# Altium integrated library NXP_60_26022015.IntLib: 1306 symbols (part 13 of 28)
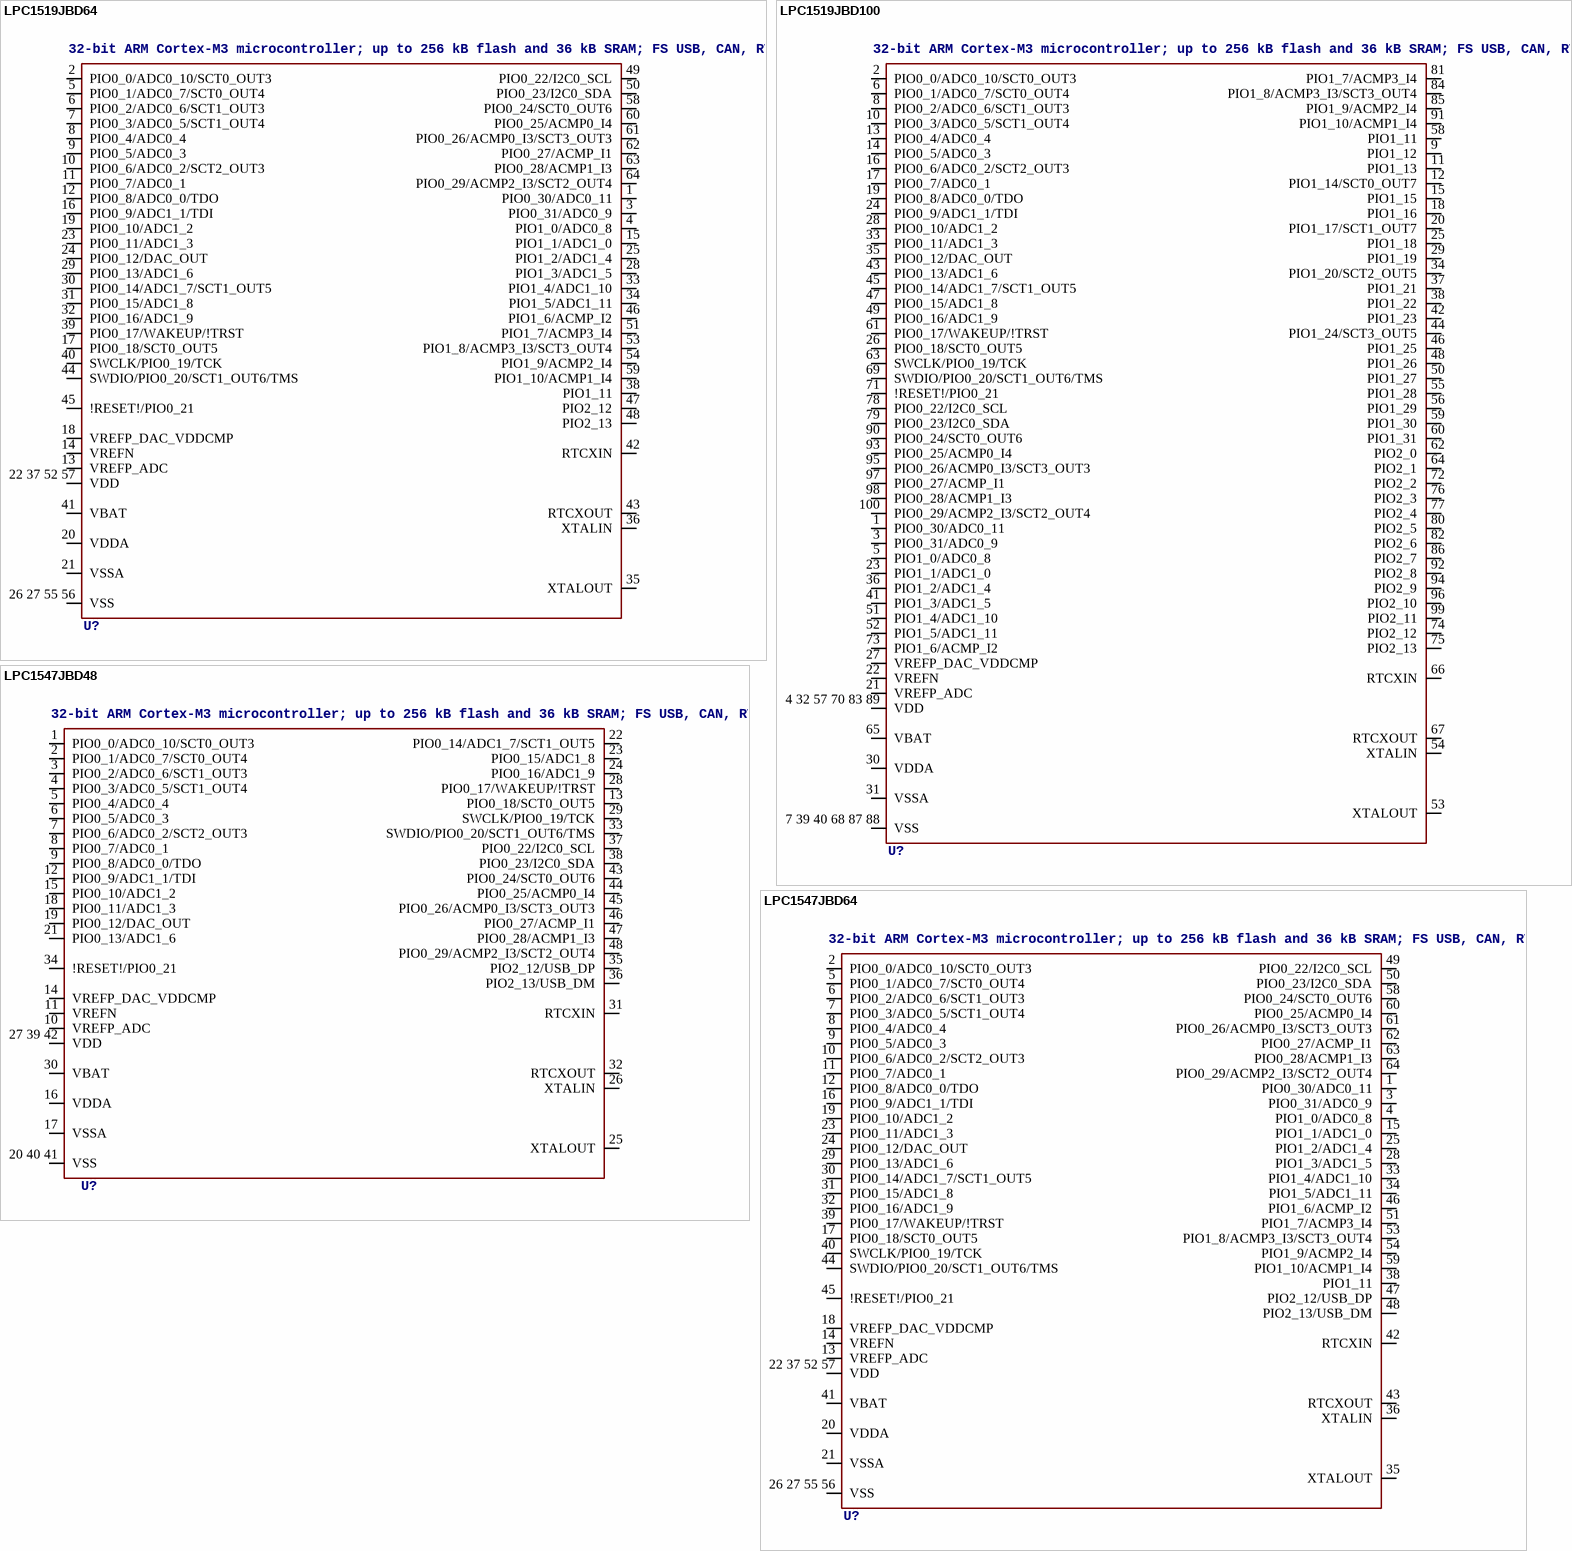
[diagram p197: symbols LPC1519JBD64 to LPC1547JBD64]

## LPC1519JBD100
designator U?, comment 32-bit ARM Cortex-M3 microcontroller; up to 256 kB flash and 36 kB SRAM; FS USB, CAN, RTC, SPI, USART, I2C The LPC15xx are ARM Cortex-M3 based microcontrollers for embedded applications featuring a rich peripheral set with very low power consumption. The ARM Cortex-M3 is a next generation core that offers system enhancements such as enhanced debug features and a higher level of support block integration. The LPC15xx operate at CPU frequencies of up to 72 MHz. The ARM Cortex-M3 CPU incorporates a 3-stage pipeline and uses a Harvard architecture with separate local instruction and data buses as well as a third bus for peripherals. The ARM Cortex-M3 CPU also includes an internal prefetch unit that supports speculative branching. The LPC15xx includes up to 256 kB of flash memory, 32 kB of ROM, a 4 kB EEPROM, and up to 36 kB of SRAM. The peripheral compliment includes one full-speed USB 2.0 device, two SPI interfaces, three USARTs, one Fast-mode Plus I2C-bus interface, one C_CAN module, PWM/timer subsystem with four configurable, multi-purpose State Configurable Timers (SCTimer/PWM) with input pre-processing unit, a Real-time clock module with independent power supply and a dedicated oscillator, two 12-channel/12-bit, 2 Msamples/s ADCs, one 12-bit, 500 kSamples/s DAC, four voltage comparators with internal voltage reference, and a temperature sensor. A DMA engine can service most peripherals.    AAL Eindhoven MK
CHANNELS: 12/12; FLASH: 256k; GPIO: 76; SRAM: 36k; USB: No
footprint SOT407-1
pins: 1 PIO0_30/ADC0_11, 2 PIO0_0/ADC0_10/SCT0_OUT3, 3 PIO0_31/ADC0_9, 4 32 57 70 83 89 VDD (power), 5 PIO1_0/ADC0_8, 6 PIO0_1/ADC0_7/SCT0_OUT4, 7 39 40 68 87 88 VSS (power), 8 PIO0_2/ADC0_6/SCT1_OUT3, 9 PIO1_12, 10 PIO0_3/ADC0_5/SCT1_OUT4, 11 PIO1_13, 12 PIO1_14/SCT0_OUT7, 13 PIO0_4/ADC0_4, 14 PIO0_5/ADC0_3, 15 PIO1_15, 16 PIO0_6/ADC0_2/SCT2_OUT3, 17 PIO0_7/ADC0_1, 18 PIO1_16, 19 PIO0_8/ADC0_0/TDO, 20 PIO1_17/SCT1_OUT7, 21 VREFP_ADC (power), 22 VREFN (power), 23 PIO1_1/ADC1_0, 24 PIO0_9/ADC1_1/TDI, 25 PIO1_18, 26 PIO0_18/SCT0_OUT5, 27 VREFP_DAC_VDDCMP (power), 28 PIO0_10/ADC1_2, 29 PIO1_19, 30 VDDA (power), 31 VSSA (power), 33 PIO0_11/ADC1_3, 34 PIO1_20/SCT2_OUT5, 35 PIO0_12/DAC_OUT, 36 PIO1_2/ADC1_4, 37 PIO1_21, 38 PIO1_22, 41 PIO1_3/ADC1_5, 42 PIO1_23, 43 PIO0_13/ADC1_6, 44 PIO1_24/SCT3_OUT5, 45 PIO0_14/ADC1_7/SCT1_OUT5, 46 PIO1_25, 47 PIO0_15/ADC1_8, 48 PIO1_26, 49 PIO0_16/ADC1_9, 50 PIO1_27, 51 PIO1_4/ADC1_10, 52 PIO1_5/ADC1_11, 53 XTALOUT, 54 XTALIN, 55 PIO1_28, 56 PIO1_29, 58 PIO1_11, 59 PIO1_30, 60 PIO1_31, 61 PIO0_17/WAKEUP/!TRST, 62 PIO2_0, 63 SWCLK/PIO0_19/TCK, 64 PIO2_1, 65 VBAT (power), 66 RTCXIN, 67 RTCXOUT, 69 SWDIO/PIO0_20/SCT1_OUT6/TMS, 71 !RESET!/PIO0_21, 72 PIO2_2, 73 PIO1_6/ACMP_I2, 74 PIO2_12, 75 PIO2_13, 76 PIO2_3, 77 PIO2_4, 78 PIO0_22/I2C0_SCL, 79 PIO0_23/I2C0_SDA, 80 PIO2_5, 81 PIO1_7/ACMP3_I4, 82 PIO2_6, 84 PIO1_8/ACMP3_I3/SCT3_OUT4, 85 PIO1_9/ACMP2_I4, 86 PIO2_7, 90 PIO0_24/SCT0_OUT6, 91 PIO1_10/ACMP1_I4, 92 PIO2_8, 93 PIO0_25/ACMP0_I4, 94 PIO2_9, 95 PIO0_26/ACMP0_I3/SCT3_OUT3, 96 PIO2_10, 97 PIO0_27/ACMP_I1, 98 PIO0_28/ACMP1_I3, 99 PIO2_11, 100 PIO0_29/ACMP2_I3/SCT2_OUT4

## LPC1547JBD48
designator U?, comment 32-bit ARM Cortex-M3 microcontroller; up to 256 kB flash and 36 kB SRAM; FS USB, CAN, RTC, SPI, USART, I2C The LPC15xx are ARM Cortex-M3 based microcontrollers for embedded applications featuring a rich peripheral set with very low power consumption. The ARM Cortex-M3 is a next generation core that offers system enhancements such as enhanced debug features and a higher level of support block integration. The LPC15xx operate at CPU frequencies of up to 72 MHz. The ARM Cortex-M3 CPU incorporates a 3-stage pipeline and uses a Harvard architecture with separate local instruction and data buses as well as a third bus for peripherals. The ARM Cortex-M3 CPU also includes an internal prefetch unit that supports speculative branching. The LPC15xx includes up to 256 kB of flash memory, 32 kB of ROM, a 4 kB EEPROM, and up to 36 kB of SRAM. The peripheral compliment includes one full-speed USB 2.0 device, two SPI interfaces, three USARTs, one Fast-mode Plus I2C-bus interface, one C_CAN module, PWM/timer subsystem with four configurable, multi-purpose State Configurable Timers (SCTimer/PWM) with input pre-processing unit, a Real-time clock module with independent power supply and a dedicated oscillator, two 12-channel/12-bit, 2 Msamples/s ADCs, one 12-bit, 500 kSamples/s DAC, four voltage comparators with internal voltage reference, and a temperature sensor. A DMA engine can service most peripherals.    AAL Eindhoven MK
CHANNELS: 9/7; FLASH: 64k; GPIO: 30; SRAM: 12k; USB: yes
footprint SOT313-2
pins: 1 PIO0_0/ADC0_10/SCT0_OUT3, 2 PIO0_1/ADC0_7/SCT0_OUT4, 3 PIO0_2/ADC0_6/SCT1_OUT3, 4 PIO0_3/ADC0_5/SCT1_OUT4, 5 PIO0_4/ADC0_4, 6 PIO0_5/ADC0_3, 7 PIO0_6/ADC0_2/SCT2_OUT3, 8 PIO0_7/ADC0_1, 9 PIO0_8/ADC0_0/TDO, 10 VREFP_ADC (power), 11 VREFN (power), 12 PIO0_9/ADC1_1/TDI, 13 PIO0_18/SCT0_OUT5, 14 VREFP_DAC_VDDCMP (power), 15 PIO0_10/ADC1_2, 16 VDDA (power), 17 VSSA (power), 18 PIO0_11/ADC1_3, 19 PIO0_12/DAC_OUT, 20 40 41 VSS (power), 21 PIO0_13/ADC1_6, 22 PIO0_14/ADC1_7/SCT1_OUT5, 23 PIO0_15/ADC1_8, 24 PIO0_16/ADC1_9, 25 XTALOUT, 26 XTALIN, 27 39 42 VDD (power), 28 PIO0_17/WAKEUP/!TRST, 29 SWCLK/PIO0_19/TCK, 30 VBAT (power), 31 RTCXIN, 32 RTCXOUT, 33 SWDIO/PIO0_20/SCT1_OUT6/TMS, 34 !RESET!/PIO0_21, 35 PIO2_12/USB_DP, 36 PIO2_13/USB_DM, 37 PIO0_22/I2C0_SCL, 38 PIO0_23/I2C0_SDA, 43 PIO0_24/SCT0_OUT6, 44 PIO0_25/ACMP0_I4, 45 PIO0_26/ACMP0_I3/SCT3_OUT3, 46 PIO0_27/ACMP_I1, 47 PIO0_28/ACMP1_I3, 48 PIO0_29/ACMP2_I3/SCT2_OUT4

## LPC1547JBD64
designator U?, comment 32-bit ARM Cortex-M3 microcontroller; up to 256 kB flash and 36 kB SRAM; FS USB, CAN, RTC, SPI, USART, I2C The LPC15xx are ARM Cortex-M3 based microcontrollers for embedded applications featuring a rich peripheral set with very low power consumption. The ARM Cortex-M3 is a next generation core that offers system enhancements such as enhanced debug features and a higher level of support block integration. The LPC15xx operate at CPU frequencies of up to 72 MHz. The ARM Cortex-M3 CPU incorporates a 3-stage pipeline and uses a Harvard architecture with separate local instruction and data buses as well as a third bus for peripherals. The ARM Cortex-M3 CPU also includes an internal prefetch unit that supports speculative branching. The LPC15xx includes up to 256 kB of flash memory, 32 kB of ROM, a 4 kB EEPROM, and up to 36 kB of SRAM. The peripheral compliment includes one full-speed USB 2.0 device, two SPI interfaces, three USARTs, one Fast-mode Plus I2C-bus interface, one C_CAN module, PWM/timer subsystem with four configurable, multi-purpose State Configurable Timers (SCTimer/PWM) with input pre-processing unit, a Real-time clock module with independent power supply and a dedicated oscillator, two 12-channel/12-bit, 2 Msamples/s ADCs, one 12-bit, 500 kSamples/s DAC, four voltage comparators with internal voltage reference, and a temperature sensor. A DMA engine can service most peripherals.    AAL Eindhoven MK
CHANNELS: 12/12; FLASH: 64k; GPIO: 44; SRAM: 12k; USB: yes
footprint SOT314-2
pins: 1 PIO0_30/ADC0_11, 2 PIO0_0/ADC0_10/SCT0_OUT3, 3 PIO0_31/ADC0_9, 4 PIO1_0/ADC0_8, 5 PIO0_1/ADC0_7/SCT0_OUT4, 6 PIO0_2/ADC0_6/SCT1_OUT3, 7 PIO0_3/ADC0_5/SCT1_OUT4, 8 PIO0_4/ADC0_4, 9 PIO0_5/ADC0_3, 10 PIO0_6/ADC0_2/SCT2_OUT3, 11 PIO0_7/ADC0_1, 12 PIO0_8/ADC0_0/TDO, 13 VREFP_ADC (power), 14 VREFN (power), 15 PIO1_1/ADC1_0, 16 PIO0_9/ADC1_1/TDI, 17 PIO0_18/SCT0_OUT5, 18 VREFP_DAC_VDDCMP (power), 19 PIO0_10/ADC1_2, 20 VDDA (power), 21 VSSA (power), 22 37 52 57 VDD (power), 23 PIO0_11/ADC1_3, 24 PIO0_12/DAC_OUT, 25 PIO1_2/ADC1_4, 26 27 55 56 VSS (power), 28 PIO1_3/ADC1_5, 29 PIO0_13/ADC1_6, 30 PIO0_14/ADC1_7/SCT1_OUT5, 31 PIO0_15/ADC1_8, 32 PIO0_16/ADC1_9, 33 PIO1_4/ADC1_10, 34 PIO1_5/ADC1_11, 35 XTALOUT, 36 XTALIN, 38 PIO1_11, 39 PIO0_17/WAKEUP/!TRST, 40 SWCLK/PIO0_19/TCK, 41 VBAT (power), 42 RTCXIN, 43 RTCXOUT, 44 SWDIO/PIO0_20/SCT1_OUT6/TMS, 45 !RESET!/PIO0_21, 46 PIO1_6/ACMP_I2, 47 PIO2_12/USB_DP, 48 PIO2_13/USB_DM, 49 PIO0_22/I2C0_SCL, 50 PIO0_23/I2C0_SDA, 51 PIO1_7/ACMP3_I4, 53 PIO1_8/ACMP3_I3/SCT3_OUT4, 54 PIO1_9/ACMP2_I4, 58 PIO0_24/SCT0_OUT6, 59 PIO1_10/ACMP1_I4, 60 PIO0_25/ACMP0_I4, 61 PIO0_26/ACMP0_I3/SCT3_OUT3, 62 PIO0_27/ACMP_I1, 63 PIO0_28/ACMP1_I3, 64 PIO0_29/ACMP2_I3/SCT2_OUT4

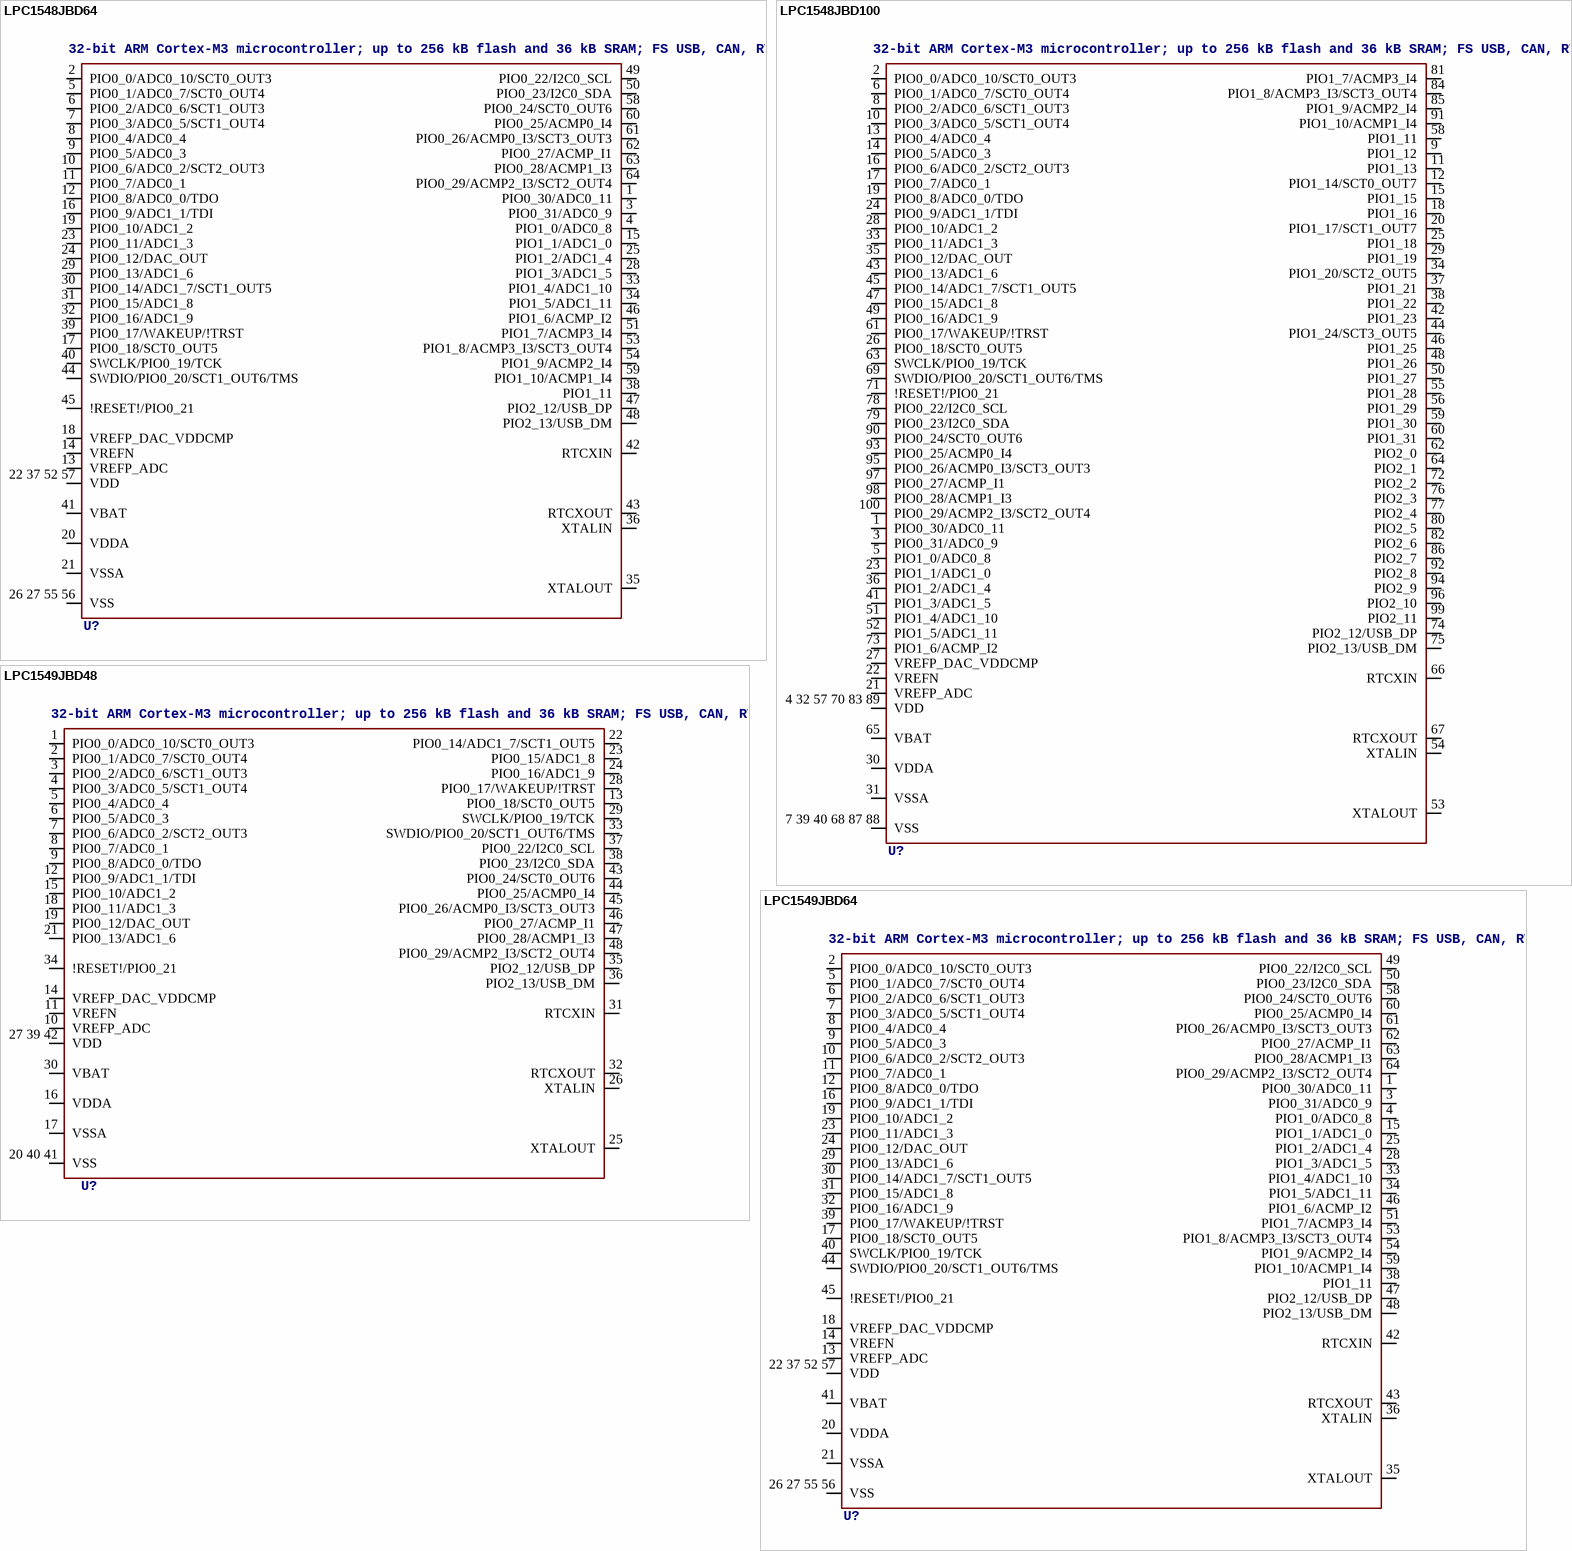
[diagram p76: symbols LPC1548JBD64 to LPC1549JBD64]

## LPC1548JBD64
designator U?, comment 32-bit ARM Cortex-M3 microcontroller; up to 256 kB flash and 36 kB SRAM; FS USB, CAN, RTC, SPI, USART, I2C The LPC15xx are ARM Cortex-M3 based microcontrollers for embedded applications featuring a rich peripheral set with very low power consumption. The ARM Cortex-M3 is a next generation core that offers system enhancements such as enhanced debug features and a higher level of support block integration. The LPC15xx operate at CPU frequencies of up to 72 MHz. The ARM Cortex-M3 CPU incorporates a 3-stage pipeline and uses a Harvard architecture with separate local instruction and data buses as well as a third bus for peripherals. The ARM Cortex-M3 CPU also includes an internal prefetch unit that supports speculative branching. The LPC15xx includes up to 256 kB of flash memory, 32 kB of ROM, a 4 kB EEPROM, and up to 36 kB of SRAM. The peripheral compliment includes one full-speed USB 2.0 device, two SPI interfaces, three USARTs, one Fast-mode Plus I2C-bus interface, one C_CAN module, PWM/timer subsystem with four configurable, multi-purpose State Configurable Timers (SCTimer/PWM) with input pre-processing unit, a Real-time clock module with independent power supply and a dedicated oscillator, two 12-channel/12-bit, 2 Msamples/s ADCs, one 12-bit, 500 kSamples/s DAC, four voltage comparators with internal voltage reference, and a temperature sensor. A DMA engine can service most peripherals.    AAL Eindhoven MK
CHANNELS: 12/12; FLASH: 128k; GPIO: 44; SRAM: 20k; USB: yes
footprint SOT314-2
pins: 1 PIO0_30/ADC0_11, 2 PIO0_0/ADC0_10/SCT0_OUT3, 3 PIO0_31/ADC0_9, 4 PIO1_0/ADC0_8, 5 PIO0_1/ADC0_7/SCT0_OUT4, 6 PIO0_2/ADC0_6/SCT1_OUT3, 7 PIO0_3/ADC0_5/SCT1_OUT4, 8 PIO0_4/ADC0_4, 9 PIO0_5/ADC0_3, 10 PIO0_6/ADC0_2/SCT2_OUT3, 11 PIO0_7/ADC0_1, 12 PIO0_8/ADC0_0/TDO, 13 VREFP_ADC (power), 14 VREFN (power), 15 PIO1_1/ADC1_0, 16 PIO0_9/ADC1_1/TDI, 17 PIO0_18/SCT0_OUT5, 18 VREFP_DAC_VDDCMP (power), 19 PIO0_10/ADC1_2, 20 VDDA (power), 21 VSSA (power), 22 37 52 57 VDD (power), 23 PIO0_11/ADC1_3, 24 PIO0_12/DAC_OUT, 25 PIO1_2/ADC1_4, 26 27 55 56 VSS (power), 28 PIO1_3/ADC1_5, 29 PIO0_13/ADC1_6, 30 PIO0_14/ADC1_7/SCT1_OUT5, 31 PIO0_15/ADC1_8, 32 PIO0_16/ADC1_9, 33 PIO1_4/ADC1_10, 34 PIO1_5/ADC1_11, 35 XTALOUT, 36 XTALIN, 38 PIO1_11, 39 PIO0_17/WAKEUP/!TRST, 40 SWCLK/PIO0_19/TCK, 41 VBAT (power), 42 RTCXIN, 43 RTCXOUT, 44 SWDIO/PIO0_20/SCT1_OUT6/TMS, 45 !RESET!/PIO0_21, 46 PIO1_6/ACMP_I2, 47 PIO2_12/USB_DP, 48 PIO2_13/USB_DM, 49 PIO0_22/I2C0_SCL, 50 PIO0_23/I2C0_SDA, 51 PIO1_7/ACMP3_I4, 53 PIO1_8/ACMP3_I3/SCT3_OUT4, 54 PIO1_9/ACMP2_I4, 58 PIO0_24/SCT0_OUT6, 59 PIO1_10/ACMP1_I4, 60 PIO0_25/ACMP0_I4, 61 PIO0_26/ACMP0_I3/SCT3_OUT3, 62 PIO0_27/ACMP_I1, 63 PIO0_28/ACMP1_I3, 64 PIO0_29/ACMP2_I3/SCT2_OUT4

## LPC1548JBD100
designator U?, comment 32-bit ARM Cortex-M3 microcontroller; up to 256 kB flash and 36 kB SRAM; FS USB, CAN, RTC, SPI, USART, I2C The LPC15xx are ARM Cortex-M3 based microcontrollers for embedded applications featuring a rich peripheral set with very low power consumption. The ARM Cortex-M3 is a next generation core that offers system enhancements such as enhanced debug features and a higher level of support block integration. The LPC15xx operate at CPU frequencies of up to 72 MHz. The ARM Cortex-M3 CPU incorporates a 3-stage pipeline and uses a Harvard architecture with separate local instruction and data buses as well as a third bus for peripherals. The ARM Cortex-M3 CPU also includes an internal prefetch unit that supports speculative branching. The LPC15xx includes up to 256 kB of flash memory, 32 kB of ROM, a 4 kB EEPROM, and up to 36 kB of SRAM. The peripheral compliment includes one full-speed USB 2.0 device, two SPI interfaces, three USARTs, one Fast-mode Plus I2C-bus interface, one C_CAN module, PWM/timer subsystem with four configurable, multi-purpose State Configurable Timers (SCTimer/PWM) with input pre-processing unit, a Real-time clock module with independent power supply and a dedicated oscillator, two 12-channel/12-bit, 2 Msamples/s ADCs, one 12-bit, 500 kSamples/s DAC, four voltage comparators with internal voltage reference, and a temperature sensor. A DMA engine can service most peripherals.    AAL Eindhoven MK
CHANNELS: 12/12; FLASH: 128k; GPIO: 76; SRAM: 20k; USB: yes
footprint SOT407-1
pins: 1 PIO0_30/ADC0_11, 2 PIO0_0/ADC0_10/SCT0_OUT3, 3 PIO0_31/ADC0_9, 4 32 57 70 83 89 VDD (power), 5 PIO1_0/ADC0_8, 6 PIO0_1/ADC0_7/SCT0_OUT4, 7 39 40 68 87 88 VSS (power), 8 PIO0_2/ADC0_6/SCT1_OUT3, 9 PIO1_12, 10 PIO0_3/ADC0_5/SCT1_OUT4, 11 PIO1_13, 12 PIO1_14/SCT0_OUT7, 13 PIO0_4/ADC0_4, 14 PIO0_5/ADC0_3, 15 PIO1_15, 16 PIO0_6/ADC0_2/SCT2_OUT3, 17 PIO0_7/ADC0_1, 18 PIO1_16, 19 PIO0_8/ADC0_0/TDO, 20 PIO1_17/SCT1_OUT7, 21 VREFP_ADC (power), 22 VREFN (power), 23 PIO1_1/ADC1_0, 24 PIO0_9/ADC1_1/TDI, 25 PIO1_18, 26 PIO0_18/SCT0_OUT5, 27 VREFP_DAC_VDDCMP (power), 28 PIO0_10/ADC1_2, 29 PIO1_19, 30 VDDA (power), 31 VSSA (power), 33 PIO0_11/ADC1_3, 34 PIO1_20/SCT2_OUT5, 35 PIO0_12/DAC_OUT, 36 PIO1_2/ADC1_4, 37 PIO1_21, 38 PIO1_22, 41 PIO1_3/ADC1_5, 42 PIO1_23, 43 PIO0_13/ADC1_6, 44 PIO1_24/SCT3_OUT5, 45 PIO0_14/ADC1_7/SCT1_OUT5, 46 PIO1_25, 47 PIO0_15/ADC1_8, 48 PIO1_26, 49 PIO0_16/ADC1_9, 50 PIO1_27, 51 PIO1_4/ADC1_10, 52 PIO1_5/ADC1_11, 53 XTALOUT, 54 XTALIN, 55 PIO1_28, 56 PIO1_29, 58 PIO1_11, 59 PIO1_30, 60 PIO1_31, 61 PIO0_17/WAKEUP/!TRST, 62 PIO2_0, 63 SWCLK/PIO0_19/TCK, 64 PIO2_1, 65 VBAT (power), 66 RTCXIN, 67 RTCXOUT, 69 SWDIO/PIO0_20/SCT1_OUT6/TMS, 71 !RESET!/PIO0_21, 72 PIO2_2, 73 PIO1_6/ACMP_I2, 74 PIO2_12/USB_DP, 75 PIO2_13/USB_DM, 76 PIO2_3, 77 PIO2_4, 78 PIO0_22/I2C0_SCL, 79 PIO0_23/I2C0_SDA, 80 PIO2_5, 81 PIO1_7/ACMP3_I4, 82 PIO2_6, 84 PIO1_8/ACMP3_I3/SCT3_OUT4, 85 PIO1_9/ACMP2_I4, 86 PIO2_7, 90 PIO0_24/SCT0_OUT6, 91 PIO1_10/ACMP1_I4, 92 PIO2_8, 93 PIO0_25/ACMP0_I4, 94 PIO2_9, 95 PIO0_26/ACMP0_I3/SCT3_OUT3, 96 PIO2_10, 97 PIO0_27/ACMP_I1, 98 PIO0_28/ACMP1_I3, 99 PIO2_11, 100 PIO0_29/ACMP2_I3/SCT2_OUT4

## LPC1549JBD48
designator U?, comment 32-bit ARM Cortex-M3 microcontroller; up to 256 kB flash and 36 kB SRAM; FS USB, CAN, RTC, SPI, USART, I2C The LPC15xx are ARM Cortex-M3 based microcontrollers for embedded applications featuring a rich peripheral set with very low power consumption. The ARM Cortex-M3 is a next generation core that offers system enhancements such as enhanced debug features and a higher level of support block integration. The LPC15xx operate at CPU frequencies of up to 72 MHz. The ARM Cortex-M3 CPU incorporates a 3-stage pipeline and uses a Harvard architecture with separate local instruction and data buses as well as a third bus for peripherals. The ARM Cortex-M3 CPU also includes an internal prefetch unit that supports speculative branching. The LPC15xx includes up to 256 kB of flash memory, 32 kB of ROM, a 4 kB EEPROM, and up to 36 kB of SRAM. The peripheral compliment includes one full-speed USB 2.0 device, two SPI interfaces, three USARTs, one Fast-mode Plus I2C-bus interface, one C_CAN module, PWM/timer subsystem with four configurable, multi-purpose State Configurable Timers (SCTimer/PWM) with input pre-processing unit, a Real-time clock module with independent power supply and a dedicated oscillator, two 12-channel/12-bit, 2 Msamples/s ADCs, one 12-bit, 500 kSamples/s DAC, four voltage comparators with internal voltage reference, and a temperature sensor. A DMA engine can service most peripherals.    AAL Eindhoven MK
CHANNELS: 9/7; FLASH: 256k; GPIO: 30; SRAM: 36k; USB: yes
footprint SOT313-2
pins: 1 PIO0_0/ADC0_10/SCT0_OUT3, 2 PIO0_1/ADC0_7/SCT0_OUT4, 3 PIO0_2/ADC0_6/SCT1_OUT3, 4 PIO0_3/ADC0_5/SCT1_OUT4, 5 PIO0_4/ADC0_4, 6 PIO0_5/ADC0_3, 7 PIO0_6/ADC0_2/SCT2_OUT3, 8 PIO0_7/ADC0_1, 9 PIO0_8/ADC0_0/TDO, 10 VREFP_ADC (power), 11 VREFN (power), 12 PIO0_9/ADC1_1/TDI, 13 PIO0_18/SCT0_OUT5, 14 VREFP_DAC_VDDCMP (power), 15 PIO0_10/ADC1_2, 16 VDDA (power), 17 VSSA (power), 18 PIO0_11/ADC1_3, 19 PIO0_12/DAC_OUT, 20 40 41 VSS (power), 21 PIO0_13/ADC1_6, 22 PIO0_14/ADC1_7/SCT1_OUT5, 23 PIO0_15/ADC1_8, 24 PIO0_16/ADC1_9, 25 XTALOUT, 26 XTALIN, 27 39 42 VDD (power), 28 PIO0_17/WAKEUP/!TRST, 29 SWCLK/PIO0_19/TCK, 30 VBAT (power), 31 RTCXIN, 32 RTCXOUT, 33 SWDIO/PIO0_20/SCT1_OUT6/TMS, 34 !RESET!/PIO0_21, 35 PIO2_12/USB_DP, 36 PIO2_13/USB_DM, 37 PIO0_22/I2C0_SCL, 38 PIO0_23/I2C0_SDA, 43 PIO0_24/SCT0_OUT6, 44 PIO0_25/ACMP0_I4, 45 PIO0_26/ACMP0_I3/SCT3_OUT3, 46 PIO0_27/ACMP_I1, 47 PIO0_28/ACMP1_I3, 48 PIO0_29/ACMP2_I3/SCT2_OUT4

## LPC1549JBD64
designator U?, comment 32-bit ARM Cortex-M3 microcontroller; up to 256 kB flash and 36 kB SRAM; FS USB, CAN, RTC, SPI, USART, I2C The LPC15xx are ARM Cortex-M3 based microcontrollers for embedded applications featuring a rich peripheral set with very low power consumption. The ARM Cortex-M3 is a next generation core that offers system enhancements such as enhanced debug features and a higher level of support block integration. The LPC15xx operate at CPU frequencies of up to 72 MHz. The ARM Cortex-M3 CPU incorporates a 3-stage pipeline and uses a Harvard architecture with separate local instruction and data buses as well as a third bus for peripherals. The ARM Cortex-M3 CPU also includes an internal prefetch unit that supports speculative branching. The LPC15xx includes up to 256 kB of flash memory, 32 kB of ROM, a 4 kB EEPROM, and up to 36 kB of SRAM. The peripheral compliment includes one full-speed USB 2.0 device, two SPI interfaces, three USARTs, one Fast-mode Plus I2C-bus interface, one C_CAN module, PWM/timer subsystem with four configurable, multi-purpose State Configurable Timers (SCTimer/PWM) with input pre-processing unit, a Real-time clock module with independent power supply and a dedicated oscillator, two 12-channel/12-bit, 2 Msamples/s ADCs, one 12-bit, 500 kSamples/s DAC, four voltage comparators with internal voltage reference, and a temperature sensor. A DMA engine can service most peripherals.    AAL Eindhoven MK
CHANNELS: 12/12; FLASH: 256k; GPIO: 44; SRAM: 36k; USB: yes
footprint SOT314-2
pins: 1 PIO0_30/ADC0_11, 2 PIO0_0/ADC0_10/SCT0_OUT3, 3 PIO0_31/ADC0_9, 4 PIO1_0/ADC0_8, 5 PIO0_1/ADC0_7/SCT0_OUT4, 6 PIO0_2/ADC0_6/SCT1_OUT3, 7 PIO0_3/ADC0_5/SCT1_OUT4, 8 PIO0_4/ADC0_4, 9 PIO0_5/ADC0_3, 10 PIO0_6/ADC0_2/SCT2_OUT3, 11 PIO0_7/ADC0_1, 12 PIO0_8/ADC0_0/TDO, 13 VREFP_ADC (power), 14 VREFN (power), 15 PIO1_1/ADC1_0, 16 PIO0_9/ADC1_1/TDI, 17 PIO0_18/SCT0_OUT5, 18 VREFP_DAC_VDDCMP (power), 19 PIO0_10/ADC1_2, 20 VDDA (power), 21 VSSA (power), 22 37 52 57 VDD (power), 23 PIO0_11/ADC1_3, 24 PIO0_12/DAC_OUT, 25 PIO1_2/ADC1_4, 26 27 55 56 VSS (power), 28 PIO1_3/ADC1_5, 29 PIO0_13/ADC1_6, 30 PIO0_14/ADC1_7/SCT1_OUT5, 31 PIO0_15/ADC1_8, 32 PIO0_16/ADC1_9, 33 PIO1_4/ADC1_10, 34 PIO1_5/ADC1_11, 35 XTALOUT, 36 XTALIN, 38 PIO1_11, 39 PIO0_17/WAKEUP/!TRST, 40 SWCLK/PIO0_19/TCK, 41 VBAT (power), 42 RTCXIN, 43 RTCXOUT, 44 SWDIO/PIO0_20/SCT1_OUT6/TMS, 45 !RESET!/PIO0_21, 46 PIO1_6/ACMP_I2, 47 PIO2_12/USB_DP, 48 PIO2_13/USB_DM, 49 PIO0_22/I2C0_SCL, 50 PIO0_23/I2C0_SDA, 51 PIO1_7/ACMP3_I4, 53 PIO1_8/ACMP3_I3/SCT3_OUT4, 54 PIO1_9/ACMP2_I4, 58 PIO0_24/SCT0_OUT6, 59 PIO1_10/ACMP1_I4, 60 PIO0_25/ACMP0_I4, 61 PIO0_26/ACMP0_I3/SCT3_OUT3, 62 PIO0_27/ACMP_I1, 63 PIO0_28/ACMP1_I3, 64 PIO0_29/ACMP2_I3/SCT2_OUT4

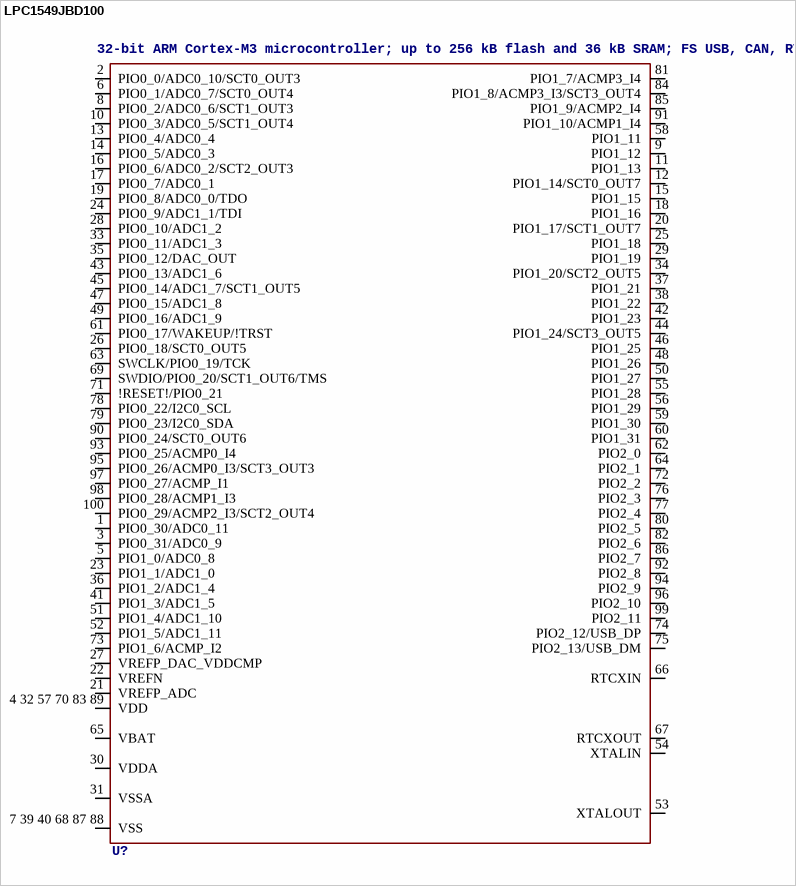
[diagram p77: symbol LPC1549JBD100]

## LPC1549JBD100
designator U?, comment 32-bit ARM Cortex-M3 microcontroller; up to 256 kB flash and 36 kB SRAM; FS USB, CAN, RTC, SPI, USART, I2C The LPC15xx are ARM Cortex-M3 based microcontrollers for embedded applications featuring a rich peripheral set with very low power consumption. The ARM Cortex-M3 is a next generation core that offers system enhancements such as enhanced debug features and a higher level of support block integration. The LPC15xx operate at CPU frequencies of up to 72 MHz. The ARM Cortex-M3 CPU incorporates a 3-stage pipeline and uses a Harvard architecture with separate local instruction and data buses as well as a third bus for peripherals. The ARM Cortex-M3 CPU also includes an internal prefetch unit that supports speculative branching. The LPC15xx includes up to 256 kB of flash memory, 32 kB of ROM, a 4 kB EEPROM, and up to 36 kB of SRAM. The peripheral compliment includes one full-speed USB 2.0 device, two SPI interfaces, three USARTs, one Fast-mode Plus I2C-bus interface, one C_CAN module, PWM/timer subsystem with four configurable, multi-purpose State Configurable Timers (SCTimer/PWM) with input pre-processing unit, a Real-time clock module with independent power supply and a dedicated oscillator, two 12-channel/12-bit, 2 Msamples/s ADCs, one 12-bit, 500 kSamples/s DAC, four voltage comparators with internal voltage reference, and a temperature sensor. A DMA engine can service most peripherals.    AAL Eindhoven MK
CHANNELS: 12/12; FLASH: 256k; GPIO: 76; SRAM: 36k; USB: yes
footprint SOT407-1
pins: 1 PIO0_30/ADC0_11, 2 PIO0_0/ADC0_10/SCT0_OUT3, 3 PIO0_31/ADC0_9, 4 32 57 70 83 89 VDD (power), 5 PIO1_0/ADC0_8, 6 PIO0_1/ADC0_7/SCT0_OUT4, 7 39 40 68 87 88 VSS (power), 8 PIO0_2/ADC0_6/SCT1_OUT3, 9 PIO1_12, 10 PIO0_3/ADC0_5/SCT1_OUT4, 11 PIO1_13, 12 PIO1_14/SCT0_OUT7, 13 PIO0_4/ADC0_4, 14 PIO0_5/ADC0_3, 15 PIO1_15, 16 PIO0_6/ADC0_2/SCT2_OUT3, 17 PIO0_7/ADC0_1, 18 PIO1_16, 19 PIO0_8/ADC0_0/TDO, 20 PIO1_17/SCT1_OUT7, 21 VREFP_ADC (power), 22 VREFN (power), 23 PIO1_1/ADC1_0, 24 PIO0_9/ADC1_1/TDI, 25 PIO1_18, 26 PIO0_18/SCT0_OUT5, 27 VREFP_DAC_VDDCMP (power), 28 PIO0_10/ADC1_2, 29 PIO1_19, 30 VDDA (power), 31 VSSA (power), 33 PIO0_11/ADC1_3, 34 PIO1_20/SCT2_OUT5, 35 PIO0_12/DAC_OUT, 36 PIO1_2/ADC1_4, 37 PIO1_21, 38 PIO1_22, 41 PIO1_3/ADC1_5, 42 PIO1_23, 43 PIO0_13/ADC1_6, 44 PIO1_24/SCT3_OUT5, 45 PIO0_14/ADC1_7/SCT1_OUT5, 46 PIO1_25, 47 PIO0_15/ADC1_8, 48 PIO1_26, 49 PIO0_16/ADC1_9, 50 PIO1_27, 51 PIO1_4/ADC1_10, 52 PIO1_5/ADC1_11, 53 XTALOUT, 54 XTALIN, 55 PIO1_28, 56 PIO1_29, 58 PIO1_11, 59 PIO1_30, 60 PIO1_31, 61 PIO0_17/WAKEUP/!TRST, 62 PIO2_0, 63 SWCLK/PIO0_19/TCK, 64 PIO2_1, 65 VBAT (power), 66 RTCXIN, 67 RTCXOUT, 69 SWDIO/PIO0_20/SCT1_OUT6/TMS, 71 !RESET!/PIO0_21, 72 PIO2_2, 73 PIO1_6/ACMP_I2, 74 PIO2_12/USB_DP, 75 PIO2_13/USB_DM, 76 PIO2_3, 77 PIO2_4, 78 PIO0_22/I2C0_SCL, 79 PIO0_23/I2C0_SDA, 80 PIO2_5, 81 PIO1_7/ACMP3_I4, 82 PIO2_6, 84 PIO1_8/ACMP3_I3/SCT3_OUT4, 85 PIO1_9/ACMP2_I4, 86 PIO2_7, 90 PIO0_24/SCT0_OUT6, 91 PIO1_10/ACMP1_I4, 92 PIO2_8, 93 PIO0_25/ACMP0_I4, 94 PIO2_9, 95 PIO0_26/ACMP0_I3/SCT3_OUT3, 96 PIO2_10, 97 PIO0_27/ACMP_I1, 98 PIO0_28/ACMP1_I3, 99 PIO2_11, 100 PIO0_29/ACMP2_I3/SCT2_OUT4

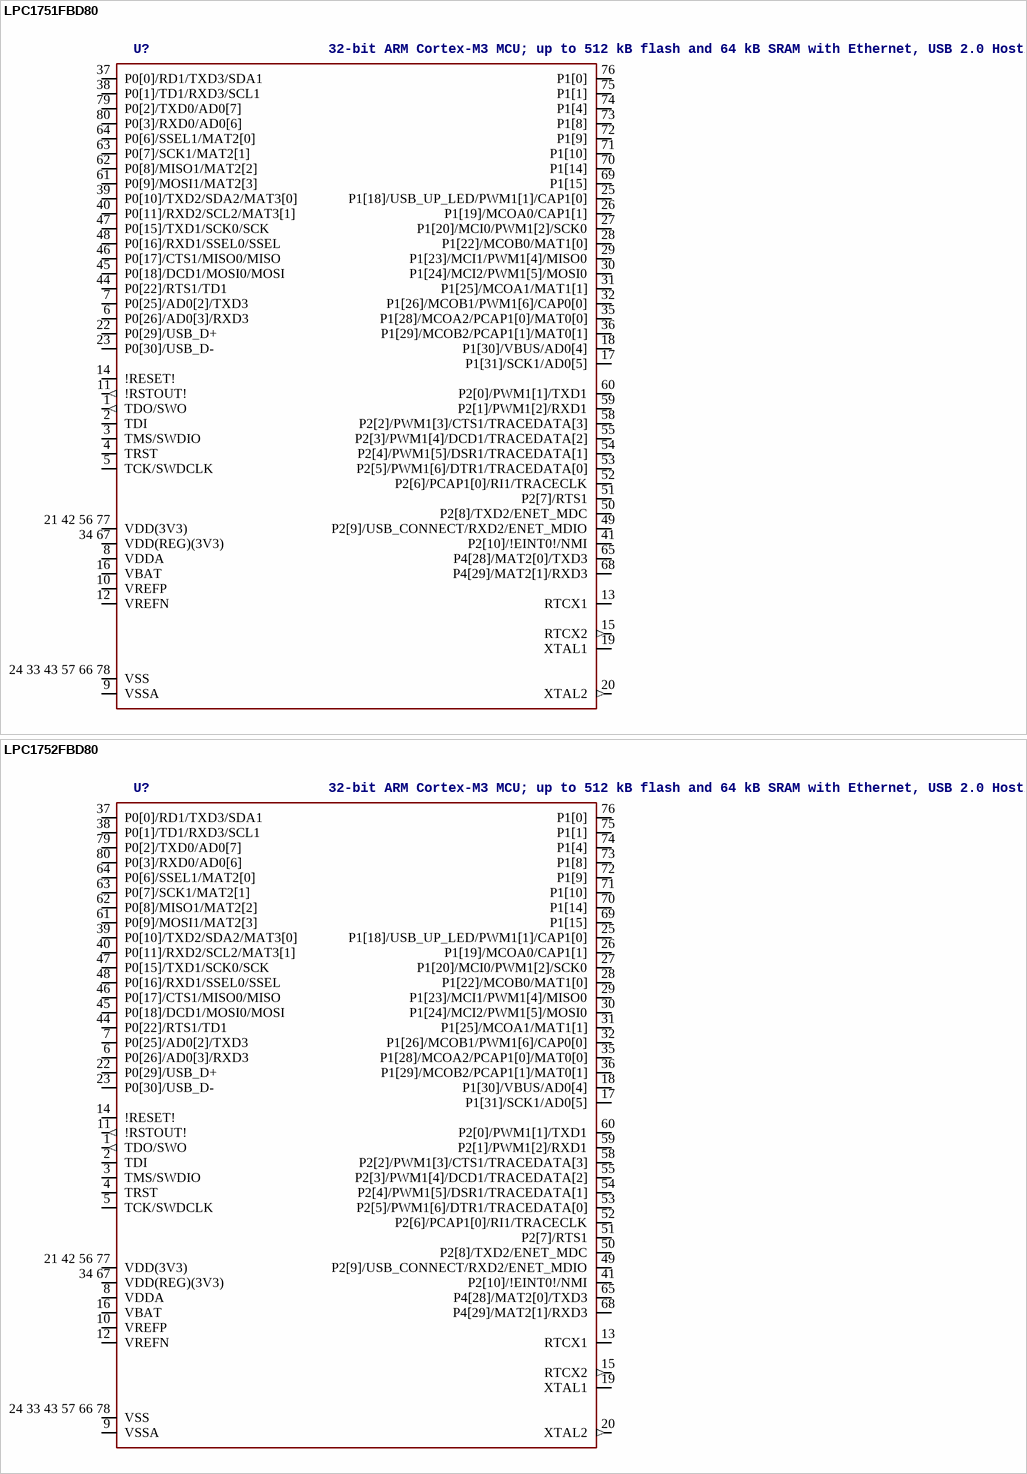
[diagram p78: symbols LPC1751FBD80 to LPC1752FBD80]

## LPC1751FBD80
designator U?, comment 32-bit ARM Cortex-M3 MCU; up to 512 kB flash and 64 kB SRAM with Ethernet, USB 2.0 Host/Device/OTG, CAN The LPC1759/58/56/54/52/51 are ARM Cortex-M3 based microcontrollers for embedded applications featuring a high level of integration and low power consumption. The ARM Cortex-M3 is a next generation core that offers system enhancements such as enhanced debug features and a higher level of support block integration. The LPC1758/56/57/54/52/51 operate at CPU frequencies of up to 100 MHz. The LPC1759 operates at CPU frequencies of up to 120 MHz. The ARM Cortex-M3 CPU incorporates a 3-stage pipeline and uses a Harvard architecture with separate local instruction and data buses as well as a third bus for peripherals. The ARM Cortex-M3 CPU also includes an internal prefetch unit that supports speculative branching. The peripheral complement of the LPC1759/58/56/54/52/51 includes up to 512 kB of flash memory, up to 64 kB of data memory, Ethernet MAC, USB Device/Host/OTG interface, 8-channel general purpose DMA controller, 4 UARTs, 2 CAN channels, 2 SSP controllers, SPI interface, 2 I 2 C-bus interfaces, 2-input plus 2-output I 2 S-bus interface, 6 channel 12-bit ADC, 10-bit DAC, motor control PWM, Quadrature Encoder interface, 4 general purpose timers, 6-output general purpose PWM, ultra-low power Real-Time Clock (RTC) with separate battery supply, and up to 52 general purpose I/O pins.    AAL Eindhoven MK
CAN: 1; DAC: no; FLASH: 32kB; MHZ: 100; SRAM: 8kB; USB: D; ETH: no; I2S: no; SRAM0: -; SRAM1: -
footprint SOT315-1
pins: 1 TDO/SWO (out), 2 TDI, 3 TMS/SWDIO, 4 TRST, 5 TCK/SWDCLK, 6 P0[26]/AD0[3]/RXD3, 7 P0[25]/AD0[2]/TXD3, 8 VDDA (power), 9 VSSA (power), 10 VREFP, 11 !RSTOUT! (out), 12 VREFN, 13 RTCX1, 14 !RESET!, 15 RTCX2 (out), 16 VBAT (power), 17 P1[31]/SCK1/AD0[5], 18 P1[30]/VBUS/AD0[4], 19 XTAL1, 20 XTAL2 (out), 21 42 56 77 VDD(3V3) (power), 22 P0[29]/USB_D+, 23 P0[30]/USB_D-, 24 33 43 57 66 78 VSS (power), 25 P1[18]/USB_UP_LED/PWM1[1]/CAP1[0], 26 P1[19]/MCOA0/CAP1[1], 27 P1[20]/MCI0/PWM1[2]/SCK0, 28 P1[22]/MCOB0/MAT1[0], 29 P1[23]/MCI1/PWM1[4]/MISO0, 30 P1[24]/MCI2/PWM1[5]/MOSI0, 31 P1[25]/MCOA1/MAT1[1], 32 P1[26]/MCOB1/PWM1[6]/CAP0[0], 34 67 VDD(REG)(3V3) (power), 35 P1[28]/MCOA2/PCAP1[0]/MAT0[0], 36 P1[29]/MCOB2/PCAP1[1]/MAT0[1], 37 P0[0]/RD1/TXD3/SDA1, 38 P0[1]/TD1/RXD3/SCL1, 39 P0[10]/TXD2/SDA2/MAT3[0], 40 P0[11]/RXD2/SCL2/MAT3[1], 41 P2[10]/!EINT0!/NMI, 44 P0[22]/RTS1/TD1, 45 P0[18]/DCD1/MOSI0/MOSI, 46 P0[17]/CTS1/MISO0/MISO, 47 P0[15]/TXD1/SCK0/SCK, 48 P0[16]/RXD1/SSEL0/SSEL, 49 P2[9]/USB_CONNECT/RXD2/ENET_MDIO, 50 P2[8]/TXD2/ENET_MDC, 51 P2[7]/RTS1, 52 P2[6]/PCAP1[0]/RI1/TRACECLK, 53 P2[5]/PWM1[6]/DTR1/TRACEDATA[0], 54 P2[4]/PWM1[5]/DSR1/TRACEDATA[1], 55 P2[3]/PWM1[4]/DCD1/TRACEDATA[2], 58 P2[2]/PWM1[3]/CTS1/TRACEDATA[3], 59 P2[1]/PWM1[2]/RXD1, 60 P2[0]/PWM1[1]/TXD1, 61 P0[9]/MOSI1/MAT2[3], 62 P0[8]/MISO1/MAT2[2], 63 P0[7]/SCK1/MAT2[1], 64 P0[6]/SSEL1/MAT2[0], 65 P4[28]/MAT2[0]/TXD3, 68 P4[29]/MAT2[1]/RXD3, 69 P1[15], 70 P1[14], 71 P1[10], 72 P1[9], 73 P1[8], 74 P1[4], 75 P1[1], 76 P1[0], 79 P0[2]/TXD0/AD0[7], 80 P0[3]/RXD0/AD0[6]

## LPC1752FBD80
designator U?, comment 32-bit ARM Cortex-M3 MCU; up to 512 kB flash and 64 kB SRAM with Ethernet, USB 2.0 Host/Device/OTG, CAN The LPC1759/58/56/54/52/51 are ARM Cortex-M3 based microcontrollers for embedded applications featuring a high level of integration and low power consumption. The ARM Cortex-M3 is a next generation core that offers system enhancements such as enhanced debug features and a higher level of support block integration. The LPC1758/56/57/54/52/51 operate at CPU frequencies of up to 100 MHz. The LPC1759 operates at CPU frequencies of up to 120 MHz. The ARM Cortex-M3 CPU incorporates a 3-stage pipeline and uses a Harvard architecture with separate local instruction and data buses as well as a third bus for peripherals. The ARM Cortex-M3 CPU also includes an internal prefetch unit that supports speculative branching. The peripheral complement of the LPC1759/58/56/54/52/51 includes up to 512 kB of flash memory, up to 64 kB of data memory, Ethernet MAC, USB Device/Host/OTG interface, 8-channel general purpose DMA controller, 4 UARTs, 2 CAN channels, 2 SSP controllers, SPI interface, 2 I 2 C-bus interfaces, 2-input plus 2-output I 2 S-bus interface, 6 channel 12-bit ADC, 10-bit DAC, motor control PWM, Quadrature Encoder interface, 4 general purpose timers, 6-output general purpose PWM, ultra-low power Real-Time Clock (RTC) with separate battery supply, and up to 52 general purpose I/O pins.    AAL Eindhoven MK
CAN: 1; DAC: no; FLASH: 64kB; MHZ: 100; SRAM: 16kB; USB: D; ETH: no; I2S: no; SRAM0: -; SRAM1: -
footprint SOT315-1
pins: 1 TDO/SWO (out), 2 TDI, 3 TMS/SWDIO, 4 TRST, 5 TCK/SWDCLK, 6 P0[26]/AD0[3]/RXD3, 7 P0[25]/AD0[2]/TXD3, 8 VDDA (power), 9 VSSA (power), 10 VREFP, 11 !RSTOUT! (out), 12 VREFN, 13 RTCX1, 14 !RESET!, 15 RTCX2 (out), 16 VBAT (power), 17 P1[31]/SCK1/AD0[5], 18 P1[30]/VBUS/AD0[4], 19 XTAL1, 20 XTAL2 (out), 21 42 56 77 VDD(3V3) (power), 22 P0[29]/USB_D+, 23 P0[30]/USB_D-, 24 33 43 57 66 78 VSS (power), 25 P1[18]/USB_UP_LED/PWM1[1]/CAP1[0], 26 P1[19]/MCOA0/CAP1[1], 27 P1[20]/MCI0/PWM1[2]/SCK0, 28 P1[22]/MCOB0/MAT1[0], 29 P1[23]/MCI1/PWM1[4]/MISO0, 30 P1[24]/MCI2/PWM1[5]/MOSI0, 31 P1[25]/MCOA1/MAT1[1], 32 P1[26]/MCOB1/PWM1[6]/CAP0[0], 34 67 VDD(REG)(3V3) (power), 35 P1[28]/MCOA2/PCAP1[0]/MAT0[0], 36 P1[29]/MCOB2/PCAP1[1]/MAT0[1], 37 P0[0]/RD1/TXD3/SDA1, 38 P0[1]/TD1/RXD3/SCL1, 39 P0[10]/TXD2/SDA2/MAT3[0], 40 P0[11]/RXD2/SCL2/MAT3[1], 41 P2[10]/!EINT0!/NMI, 44 P0[22]/RTS1/TD1, 45 P0[18]/DCD1/MOSI0/MOSI, 46 P0[17]/CTS1/MISO0/MISO, 47 P0[15]/TXD1/SCK0/SCK, 48 P0[16]/RXD1/SSEL0/SSEL, 49 P2[9]/USB_CONNECT/RXD2/ENET_MDIO, 50 P2[8]/TXD2/ENET_MDC, 51 P2[7]/RTS1, 52 P2[6]/PCAP1[0]/RI1/TRACECLK, 53 P2[5]/PWM1[6]/DTR1/TRACEDATA[0], 54 P2[4]/PWM1[5]/DSR1/TRACEDATA[1], 55 P2[3]/PWM1[4]/DCD1/TRACEDATA[2], 58 P2[2]/PWM1[3]/CTS1/TRACEDATA[3], 59 P2[1]/PWM1[2]/RXD1, 60 P2[0]/PWM1[1]/TXD1, 61 P0[9]/MOSI1/MAT2[3], 62 P0[8]/MISO1/MAT2[2], 63 P0[7]/SCK1/MAT2[1], 64 P0[6]/SSEL1/MAT2[0], 65 P4[28]/MAT2[0]/TXD3, 68 P4[29]/MAT2[1]/RXD3, 69 P1[15], 70 P1[14], 71 P1[10], 72 P1[9], 73 P1[8], 74 P1[4], 75 P1[1], 76 P1[0], 79 P0[2]/TXD0/AD0[7], 80 P0[3]/RXD0/AD0[6]

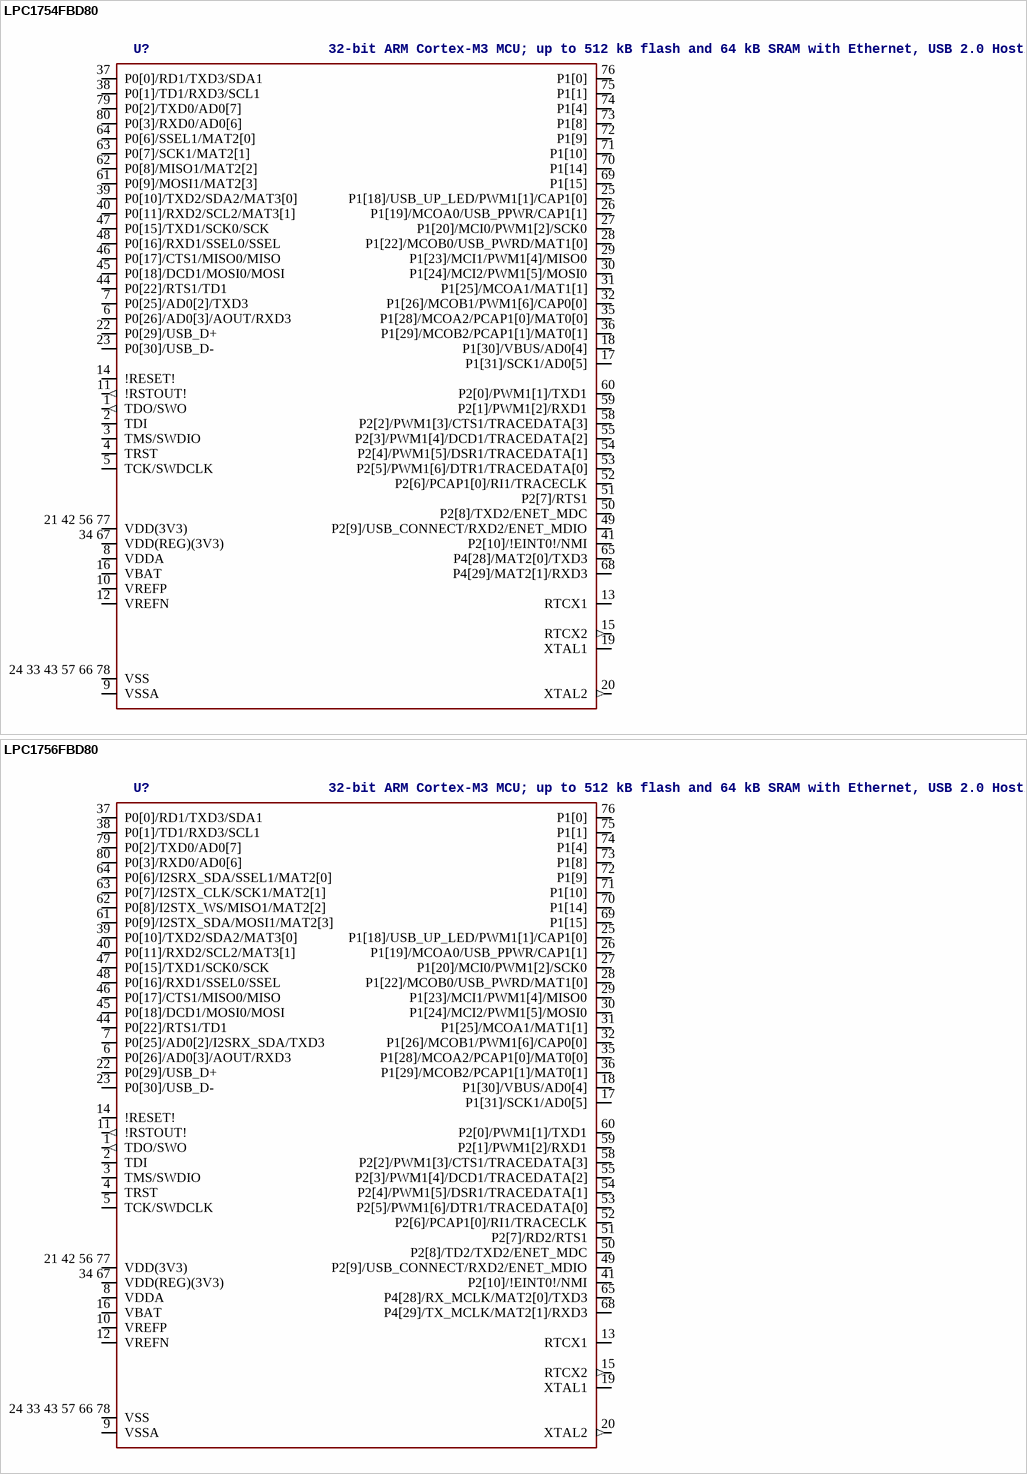
[diagram p79: symbols LPC1754FBD80 to LPC1756FBD80]

## LPC1754FBD80
designator U?, comment 32-bit ARM Cortex-M3 MCU; up to 512 kB flash and 64 kB SRAM with Ethernet, USB 2.0 Host/Device/OTG, CAN The LPC1759/58/56/54/52/51 are ARM Cortex-M3 based microcontrollers for embedded applications featuring a high level of integration and low power consumption. The ARM Cortex-M3 is a next generation core that offers system enhancements such as enhanced debug features and a higher level of support block integration. The LPC1758/56/57/54/52/51 operate at CPU frequencies of up to 100 MHz. The LPC1759 operates at CPU frequencies of up to 120 MHz. The ARM Cortex-M3 CPU incorporates a 3-stage pipeline and uses a Harvard architecture with separate local instruction and data buses as well as a third bus for peripherals. The ARM Cortex-M3 CPU also includes an internal prefetch unit that supports speculative branching. The peripheral complement of the LPC1759/58/56/54/52/51 includes up to 512 kB of flash memory, up to 64 kB of data memory, Ethernet MAC, USB Device/Host/OTG interface, 8-channel general purpose DMA controller, 4 UARTs, 2 CAN channels, 2 SSP controllers, SPI interface, 2 I 2 C-bus interfaces, 2-input plus 2-output I 2 S-bus interface, 6 channel 12-bit ADC, 10-bit DAC, motor control PWM, Quadrature Encoder interface, 4 general purpose timers, 6-output general purpose PWM, ultra-low power Real-Time Clock (RTC) with separate battery supply, and up to 52 general purpose I/O pins.    AAL Eindhoven MK
CAN: 1; DAC: yes; ETH: no; FLASH: 128kB; MHZ: 100; SRAM: 16kB; USB: D/H/OTG; I2S: no; SRAM0: 16kB; SRAM1: -
footprint SOT315-1
pins: 1 TDO/SWO (out), 2 TDI, 3 TMS/SWDIO, 4 TRST, 5 TCK/SWDCLK, 6 P0[26]/AD0[3]/AOUT/RXD3, 7 P0[25]/AD0[2]/TXD3, 8 VDDA (power), 9 VSSA (power), 10 VREFP, 11 !RSTOUT! (out), 12 VREFN, 13 RTCX1, 14 !RESET!, 15 RTCX2 (out), 16 VBAT (power), 17 P1[31]/SCK1/AD0[5], 18 P1[30]/VBUS/AD0[4], 19 XTAL1, 20 XTAL2 (out), 21 42 56 77 VDD(3V3) (power), 22 P0[29]/USB_D+, 23 P0[30]/USB_D-, 24 33 43 57 66 78 VSS (power), 25 P1[18]/USB_UP_LED/PWM1[1]/CAP1[0], 26 P1[19]/MCOA0/USB_PPWR/CAP1[1], 27 P1[20]/MCI0/PWM1[2]/SCK0, 28 P1[22]/MCOB0/USB_PWRD/MAT1[0], 29 P1[23]/MCI1/PWM1[4]/MISO0, 30 P1[24]/MCI2/PWM1[5]/MOSI0, 31 P1[25]/MCOA1/MAT1[1], 32 P1[26]/MCOB1/PWM1[6]/CAP0[0], 34 67 VDD(REG)(3V3) (power), 35 P1[28]/MCOA2/PCAP1[0]/MAT0[0], 36 P1[29]/MCOB2/PCAP1[1]/MAT0[1], 37 P0[0]/RD1/TXD3/SDA1, 38 P0[1]/TD1/RXD3/SCL1, 39 P0[10]/TXD2/SDA2/MAT3[0], 40 P0[11]/RXD2/SCL2/MAT3[1], 41 P2[10]/!EINT0!/NMI, 44 P0[22]/RTS1/TD1, 45 P0[18]/DCD1/MOSI0/MOSI, 46 P0[17]/CTS1/MISO0/MISO, 47 P0[15]/TXD1/SCK0/SCK, 48 P0[16]/RXD1/SSEL0/SSEL, 49 P2[9]/USB_CONNECT/RXD2/ENET_MDIO, 50 P2[8]/TXD2/ENET_MDC, 51 P2[7]/RTS1, 52 P2[6]/PCAP1[0]/RI1/TRACECLK, 53 P2[5]/PWM1[6]/DTR1/TRACEDATA[0], 54 P2[4]/PWM1[5]/DSR1/TRACEDATA[1], 55 P2[3]/PWM1[4]/DCD1/TRACEDATA[2], 58 P2[2]/PWM1[3]/CTS1/TRACEDATA[3], 59 P2[1]/PWM1[2]/RXD1, 60 P2[0]/PWM1[1]/TXD1, 61 P0[9]/MOSI1/MAT2[3], 62 P0[8]/MISO1/MAT2[2], 63 P0[7]/SCK1/MAT2[1], 64 P0[6]/SSEL1/MAT2[0], 65 P4[28]/MAT2[0]/TXD3, 68 P4[29]/MAT2[1]/RXD3, 69 P1[15], 70 P1[14], 71 P1[10], 72 P1[9], 73 P1[8], 74 P1[4], 75 P1[1], 76 P1[0], 79 P0[2]/TXD0/AD0[7], 80 P0[3]/RXD0/AD0[6]

## LPC1756FBD80
designator U?, comment 32-bit ARM Cortex-M3 MCU; up to 512 kB flash and 64 kB SRAM with Ethernet, USB 2.0 Host/Device/OTG, CAN The LPC1759/58/56/54/52/51 are ARM Cortex-M3 based microcontrollers for embedded applications featuring a high level of integration and low power consumption. The ARM Cortex-M3 is a next generation core that offers system enhancements such as enhanced debug features and a higher level of support block integration. The LPC1758/56/57/54/52/51 operate at CPU frequencies of up to 100 MHz. The LPC1759 operates at CPU frequencies of up to 120 MHz. The ARM Cortex-M3 CPU incorporates a 3-stage pipeline and uses a Harvard architecture with separate local instruction and data buses as well as a third bus for peripherals. The ARM Cortex-M3 CPU also includes an internal prefetch unit that supports speculative branching. The peripheral complement of the LPC1759/58/56/54/52/51 includes up to 512 kB of flash memory, up to 64 kB of data memory, Ethernet MAC, USB Device/Host/OTG interface, 8-channel general purpose DMA controller, 4 UARTs, 2 CAN channels, 2 SSP controllers, SPI interface, 2 I 2 C-bus interfaces, 2-input plus 2-output I 2 S-bus interface, 6 channel 12-bit ADC, 10-bit DAC, motor control PWM, Quadrature Encoder interface, 4 general purpose timers, 6-output general purpose PWM, ultra-low power Real-Time Clock (RTC) with separate battery supply, and up to 52 general purpose I/O pins.    AAL Eindhoven MK
CAN: 2; DAC: yes; ETH: no; FLASH: 256kB; MHZ: 100; SRAM: 16kB; USB: D/H/OTG; I2S: yes; SRAM0: 16kB; SRAM1: -
footprint SOT315-1
pins: 1 TDO/SWO (out), 2 TDI, 3 TMS/SWDIO, 4 TRST, 5 TCK/SWDCLK, 6 P0[26]/AD0[3]/AOUT/RXD3, 7 P0[25]/AD0[2]/I2SRX_SDA/TXD3, 8 VDDA (power), 9 VSSA (power), 10 VREFP, 11 !RSTOUT! (out), 12 VREFN, 13 RTCX1, 14 !RESET!, 15 RTCX2 (out), 16 VBAT (power), 17 P1[31]/SCK1/AD0[5], 18 P1[30]/VBUS/AD0[4], 19 XTAL1, 20 XTAL2 (out), 21 42 56 77 VDD(3V3) (power), 22 P0[29]/USB_D+, 23 P0[30]/USB_D-, 24 33 43 57 66 78 VSS (power), 25 P1[18]/USB_UP_LED/PWM1[1]/CAP1[0], 26 P1[19]/MCOA0/USB_PPWR/CAP1[1], 27 P1[20]/MCI0/PWM1[2]/SCK0, 28 P1[22]/MCOB0/USB_PWRD/MAT1[0], 29 P1[23]/MCI1/PWM1[4]/MISO0, 30 P1[24]/MCI2/PWM1[5]/MOSI0, 31 P1[25]/MCOA1/MAT1[1], 32 P1[26]/MCOB1/PWM1[6]/CAP0[0], 34 67 VDD(REG)(3V3) (power), 35 P1[28]/MCOA2/PCAP1[0]/MAT0[0], 36 P1[29]/MCOB2/PCAP1[1]/MAT0[1], 37 P0[0]/RD1/TXD3/SDA1, 38 P0[1]/TD1/RXD3/SCL1, 39 P0[10]/TXD2/SDA2/MAT3[0], 40 P0[11]/RXD2/SCL2/MAT3[1], 41 P2[10]/!EINT0!/NMI, 44 P0[22]/RTS1/TD1, 45 P0[18]/DCD1/MOSI0/MOSI, 46 P0[17]/CTS1/MISO0/MISO, 47 P0[15]/TXD1/SCK0/SCK, 48 P0[16]/RXD1/SSEL0/SSEL, 49 P2[9]/USB_CONNECT/RXD2/ENET_MDIO, 50 P2[8]/TD2/TXD2/ENET_MDC, 51 P2[7]/RD2/RTS1, 52 P2[6]/PCAP1[0]/RI1/TRACECLK, 53 P2[5]/PWM1[6]/DTR1/TRACEDATA[0], 54 P2[4]/PWM1[5]/DSR1/TRACEDATA[1], 55 P2[3]/PWM1[4]/DCD1/TRACEDATA[2], 58 P2[2]/PWM1[3]/CTS1/TRACEDATA[3], 59 P2[1]/PWM1[2]/RXD1, 60 P2[0]/PWM1[1]/TXD1, 61 P0[9]/I2STX_SDA/MOSI1/MAT2[3], 62 P0[8]/I2STX_WS/MISO1/MAT2[2], 63 P0[7]/I2STX_CLK/SCK1/MAT2[1], 64 P0[6]/I2SRX_SDA/SSEL1/MAT2[0], 65 P4[28]/RX_MCLK/MAT2[0]/TXD3, 68 P4[29]/TX_MCLK/MAT2[1]/RXD3, 69 P1[15], 70 P1[14], 71 P1[10], 72 P1[9], 73 P1[8], 74 P1[4], 75 P1[1], 76 P1[0], 79 P0[2]/TXD0/AD0[7], 80 P0[3]/RXD0/AD0[6]

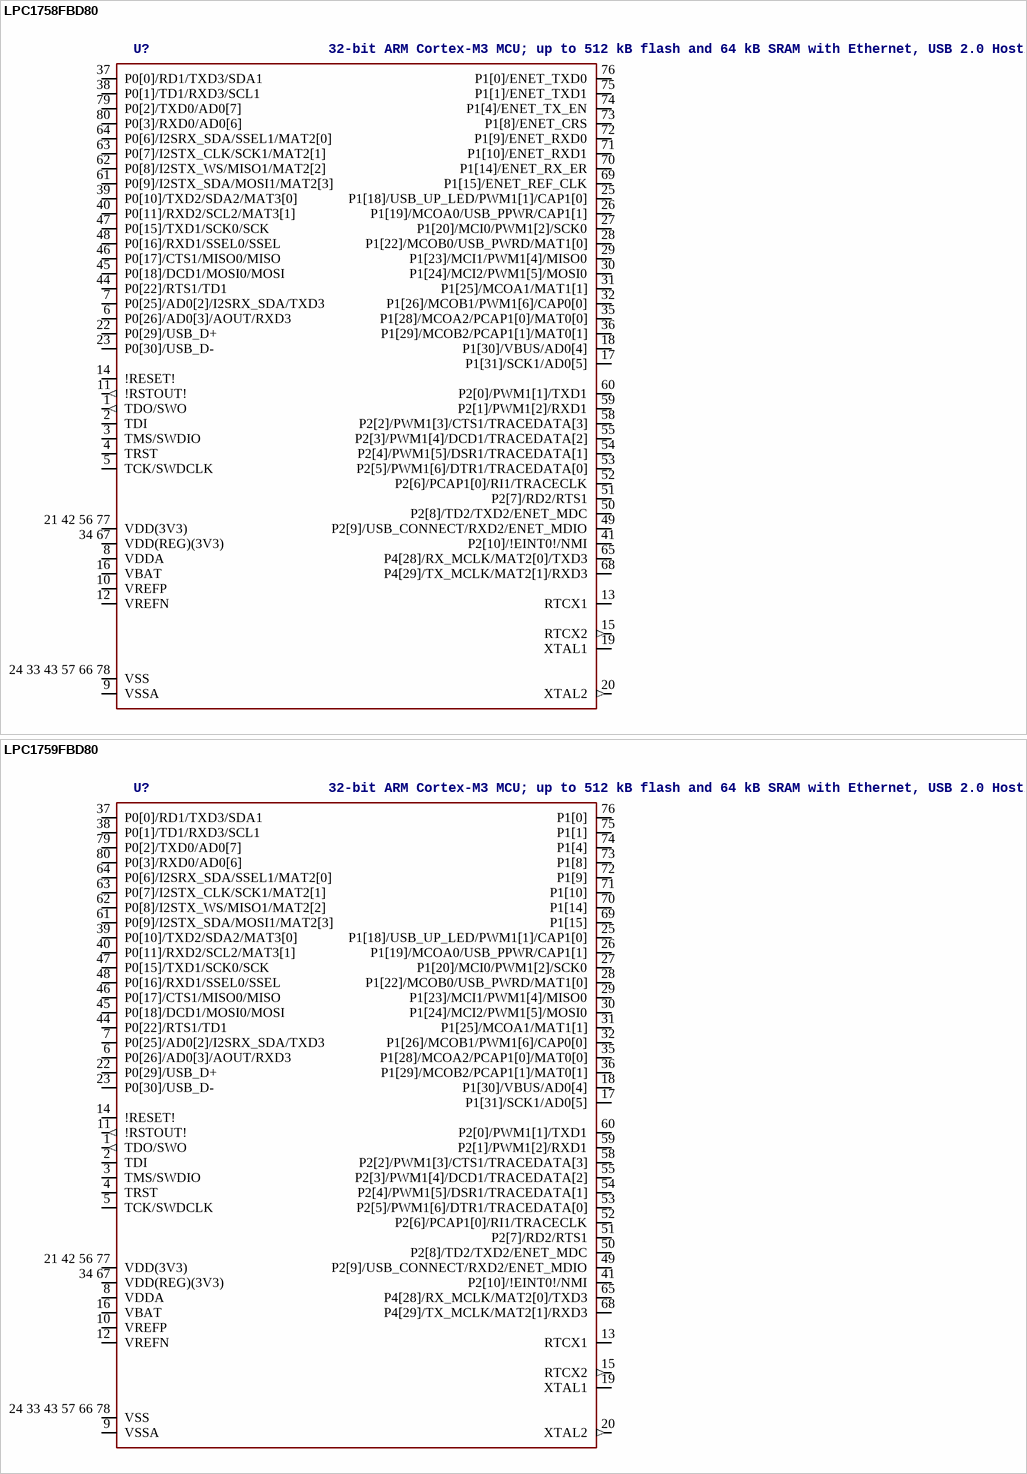
[diagram p80: symbols LPC1758FBD80 to LPC1759FBD80]

## LPC1758FBD80
designator U?, comment 32-bit ARM Cortex-M3 MCU; up to 512 kB flash and 64 kB SRAM with Ethernet, USB 2.0 Host/Device/OTG, CAN The LPC1759/58/56/54/52/51 are ARM Cortex-M3 based microcontrollers for embedded applications featuring a high level of integration and low power consumption. The ARM Cortex-M3 is a next generation core that offers system enhancements such as enhanced debug features and a higher level of support block integration. The LPC1758/56/57/54/52/51 operate at CPU frequencies of up to 100 MHz. The LPC1759 operates at CPU frequencies of up to 120 MHz. The ARM Cortex-M3 CPU incorporates a 3-stage pipeline and uses a Harvard architecture with separate local instruction and data buses as well as a third bus for peripherals. The ARM Cortex-M3 CPU also includes an internal prefetch unit that supports speculative branching. The peripheral complement of the LPC1759/58/56/54/52/51 includes up to 512 kB of flash memory, up to 64 kB of data memory, Ethernet MAC, USB Device/Host/OTG interface, 8-channel general purpose DMA controller, 4 UARTs, 2 CAN channels, 2 SSP controllers, SPI interface, 2 I 2 C-bus interfaces, 2-input plus 2-output I 2 S-bus interface, 6 channel 12-bit ADC, 10-bit DAC, motor control PWM, Quadrature Encoder interface, 4 general purpose timers, 6-output general purpose PWM, ultra-low power Real-Time Clock (RTC) with separate battery supply, and up to 52 general purpose I/O pins.    AAL Eindhoven MK
CAN: 2; DAC: yes; FLASH: 512kB; MHZ: 100; SRAM: 32kB; SRAM0: 16kB; USB: D/H/OTG; ETH: yes; I2S: yes; SRAM1: 16kB
footprint SOT315-1
pins: 1 TDO/SWO (out), 2 TDI, 3 TMS/SWDIO, 4 TRST, 5 TCK/SWDCLK, 6 P0[26]/AD0[3]/AOUT/RXD3, 7 P0[25]/AD0[2]/I2SRX_SDA/TXD3, 8 VDDA (power), 9 VSSA (power), 10 VREFP, 11 !RSTOUT! (out), 12 VREFN, 13 RTCX1, 14 !RESET!, 15 RTCX2 (out), 16 VBAT (power), 17 P1[31]/SCK1/AD0[5], 18 P1[30]/VBUS/AD0[4], 19 XTAL1, 20 XTAL2 (out), 21 42 56 77 VDD(3V3) (power), 22 P0[29]/USB_D+, 23 P0[30]/USB_D-, 24 33 43 57 66 78 VSS (power), 25 P1[18]/USB_UP_LED/PWM1[1]/CAP1[0], 26 P1[19]/MCOA0/USB_PPWR/CAP1[1], 27 P1[20]/MCI0/PWM1[2]/SCK0, 28 P1[22]/MCOB0/USB_PWRD/MAT1[0], 29 P1[23]/MCI1/PWM1[4]/MISO0, 30 P1[24]/MCI2/PWM1[5]/MOSI0, 31 P1[25]/MCOA1/MAT1[1], 32 P1[26]/MCOB1/PWM1[6]/CAP0[0], 34 67 VDD(REG)(3V3) (power), 35 P1[28]/MCOA2/PCAP1[0]/MAT0[0], 36 P1[29]/MCOB2/PCAP1[1]/MAT0[1], 37 P0[0]/RD1/TXD3/SDA1, 38 P0[1]/TD1/RXD3/SCL1, 39 P0[10]/TXD2/SDA2/MAT3[0], 40 P0[11]/RXD2/SCL2/MAT3[1], 41 P2[10]/!EINT0!/NMI, 44 P0[22]/RTS1/TD1, 45 P0[18]/DCD1/MOSI0/MOSI, 46 P0[17]/CTS1/MISO0/MISO, 47 P0[15]/TXD1/SCK0/SCK, 48 P0[16]/RXD1/SSEL0/SSEL, 49 P2[9]/USB_CONNECT/RXD2/ENET_MDIO, 50 P2[8]/TD2/TXD2/ENET_MDC, 51 P2[7]/RD2/RTS1, 52 P2[6]/PCAP1[0]/RI1/TRACECLK, 53 P2[5]/PWM1[6]/DTR1/TRACEDATA[0], 54 P2[4]/PWM1[5]/DSR1/TRACEDATA[1], 55 P2[3]/PWM1[4]/DCD1/TRACEDATA[2], 58 P2[2]/PWM1[3]/CTS1/TRACEDATA[3], 59 P2[1]/PWM1[2]/RXD1, 60 P2[0]/PWM1[1]/TXD1, 61 P0[9]/I2STX_SDA/MOSI1/MAT2[3], 62 P0[8]/I2STX_WS/MISO1/MAT2[2], 63 P0[7]/I2STX_CLK/SCK1/MAT2[1], 64 P0[6]/I2SRX_SDA/SSEL1/MAT2[0], 65 P4[28]/RX_MCLK/MAT2[0]/TXD3, 68 P4[29]/TX_MCLK/MAT2[1]/RXD3, 69 P1[15]/ENET_REF_CLK, 70 P1[14]/ENET_RX_ER, 71 P1[10]/ENET_RXD1, 72 P1[9]/ENET_RXD0, 73 P1[8]/ENET_CRS, 74 P1[4]/ENET_TX_EN, 75 P1[1]/ENET_TXD1, 76 P1[0]/ENET_TXD0, 79 P0[2]/TXD0/AD0[7], 80 P0[3]/RXD0/AD0[6]

## LPC1759FBD80
designator U?, comment 32-bit ARM Cortex-M3 MCU; up to 512 kB flash and 64 kB SRAM with Ethernet, USB 2.0 Host/Device/OTG, CAN The LPC1759/58/56/54/52/51 are ARM Cortex-M3 based microcontrollers for embedded applications featuring a high level of integration and low power consumption. The ARM Cortex-M3 is a next generation core that offers system enhancements such as enhanced debug features and a higher level of support block integration. The LPC1758/56/57/54/52/51 operate at CPU frequencies of up to 100 MHz. The LPC1759 operates at CPU frequencies of up to 120 MHz. The ARM Cortex-M3 CPU incorporates a 3-stage pipeline and uses a Harvard architecture with separate local instruction and data buses as well as a third bus for peripherals. The ARM Cortex-M3 CPU also includes an internal prefetch unit that supports speculative branching. The peripheral complement of the LPC1759/58/56/54/52/51 includes up to 512 kB of flash memory, up to 64 kB of data memory, Ethernet MAC, USB Device/Host/OTG interface, 8-channel general purpose DMA controller, 4 UARTs, 2 CAN channels, 2 SSP controllers, SPI interface, 2 I 2 C-bus interfaces, 2-input plus 2-output I 2 S-bus interface, 6 channel 12-bit ADC, 10-bit DAC, motor control PWM, Quadrature Encoder interface, 4 general purpose timers, 6-output general purpose PWM, ultra-low power Real-Time Clock (RTC) with separate battery supply, and up to 52 general purpose I/O pins.    AAL Eindhoven MK
CAN: 2; DAC: yes; ETH: no; FLASH: 512kB; MHZ: 125; SRAM: 32kB; SRAM0: 16kB; USB: D/H/OTG; I2S: yes; SRAM1: 16kB
footprint SOT315-1
pins: 1 TDO/SWO (out), 2 TDI, 3 TMS/SWDIO, 4 TRST, 5 TCK/SWDCLK, 6 P0[26]/AD0[3]/AOUT/RXD3, 7 P0[25]/AD0[2]/I2SRX_SDA/TXD3, 8 VDDA (power), 9 VSSA (power), 10 VREFP, 11 !RSTOUT! (out), 12 VREFN, 13 RTCX1, 14 !RESET!, 15 RTCX2 (out), 16 VBAT (power), 17 P1[31]/SCK1/AD0[5], 18 P1[30]/VBUS/AD0[4], 19 XTAL1, 20 XTAL2 (out), 21 42 56 77 VDD(3V3) (power), 22 P0[29]/USB_D+, 23 P0[30]/USB_D-, 24 33 43 57 66 78 VSS (power), 25 P1[18]/USB_UP_LED/PWM1[1]/CAP1[0], 26 P1[19]/MCOA0/USB_PPWR/CAP1[1], 27 P1[20]/MCI0/PWM1[2]/SCK0, 28 P1[22]/MCOB0/USB_PWRD/MAT1[0], 29 P1[23]/MCI1/PWM1[4]/MISO0, 30 P1[24]/MCI2/PWM1[5]/MOSI0, 31 P1[25]/MCOA1/MAT1[1], 32 P1[26]/MCOB1/PWM1[6]/CAP0[0], 34 67 VDD(REG)(3V3) (power), 35 P1[28]/MCOA2/PCAP1[0]/MAT0[0], 36 P1[29]/MCOB2/PCAP1[1]/MAT0[1], 37 P0[0]/RD1/TXD3/SDA1, 38 P0[1]/TD1/RXD3/SCL1, 39 P0[10]/TXD2/SDA2/MAT3[0], 40 P0[11]/RXD2/SCL2/MAT3[1], 41 P2[10]/!EINT0!/NMI, 44 P0[22]/RTS1/TD1, 45 P0[18]/DCD1/MOSI0/MOSI, 46 P0[17]/CTS1/MISO0/MISO, 47 P0[15]/TXD1/SCK0/SCK, 48 P0[16]/RXD1/SSEL0/SSEL, 49 P2[9]/USB_CONNECT/RXD2/ENET_MDIO, 50 P2[8]/TD2/TXD2/ENET_MDC, 51 P2[7]/RD2/RTS1, 52 P2[6]/PCAP1[0]/RI1/TRACECLK, 53 P2[5]/PWM1[6]/DTR1/TRACEDATA[0], 54 P2[4]/PWM1[5]/DSR1/TRACEDATA[1], 55 P2[3]/PWM1[4]/DCD1/TRACEDATA[2], 58 P2[2]/PWM1[3]/CTS1/TRACEDATA[3], 59 P2[1]/PWM1[2]/RXD1, 60 P2[0]/PWM1[1]/TXD1, 61 P0[9]/I2STX_SDA/MOSI1/MAT2[3], 62 P0[8]/I2STX_WS/MISO1/MAT2[2], 63 P0[7]/I2STX_CLK/SCK1/MAT2[1], 64 P0[6]/I2SRX_SDA/SSEL1/MAT2[0], 65 P4[28]/RX_MCLK/MAT2[0]/TXD3, 68 P4[29]/TX_MCLK/MAT2[1]/RXD3, 69 P1[15], 70 P1[14], 71 P1[10], 72 P1[9], 73 P1[8], 74 P1[4], 75 P1[1], 76 P1[0], 79 P0[2]/TXD0/AD0[7], 80 P0[3]/RXD0/AD0[6]

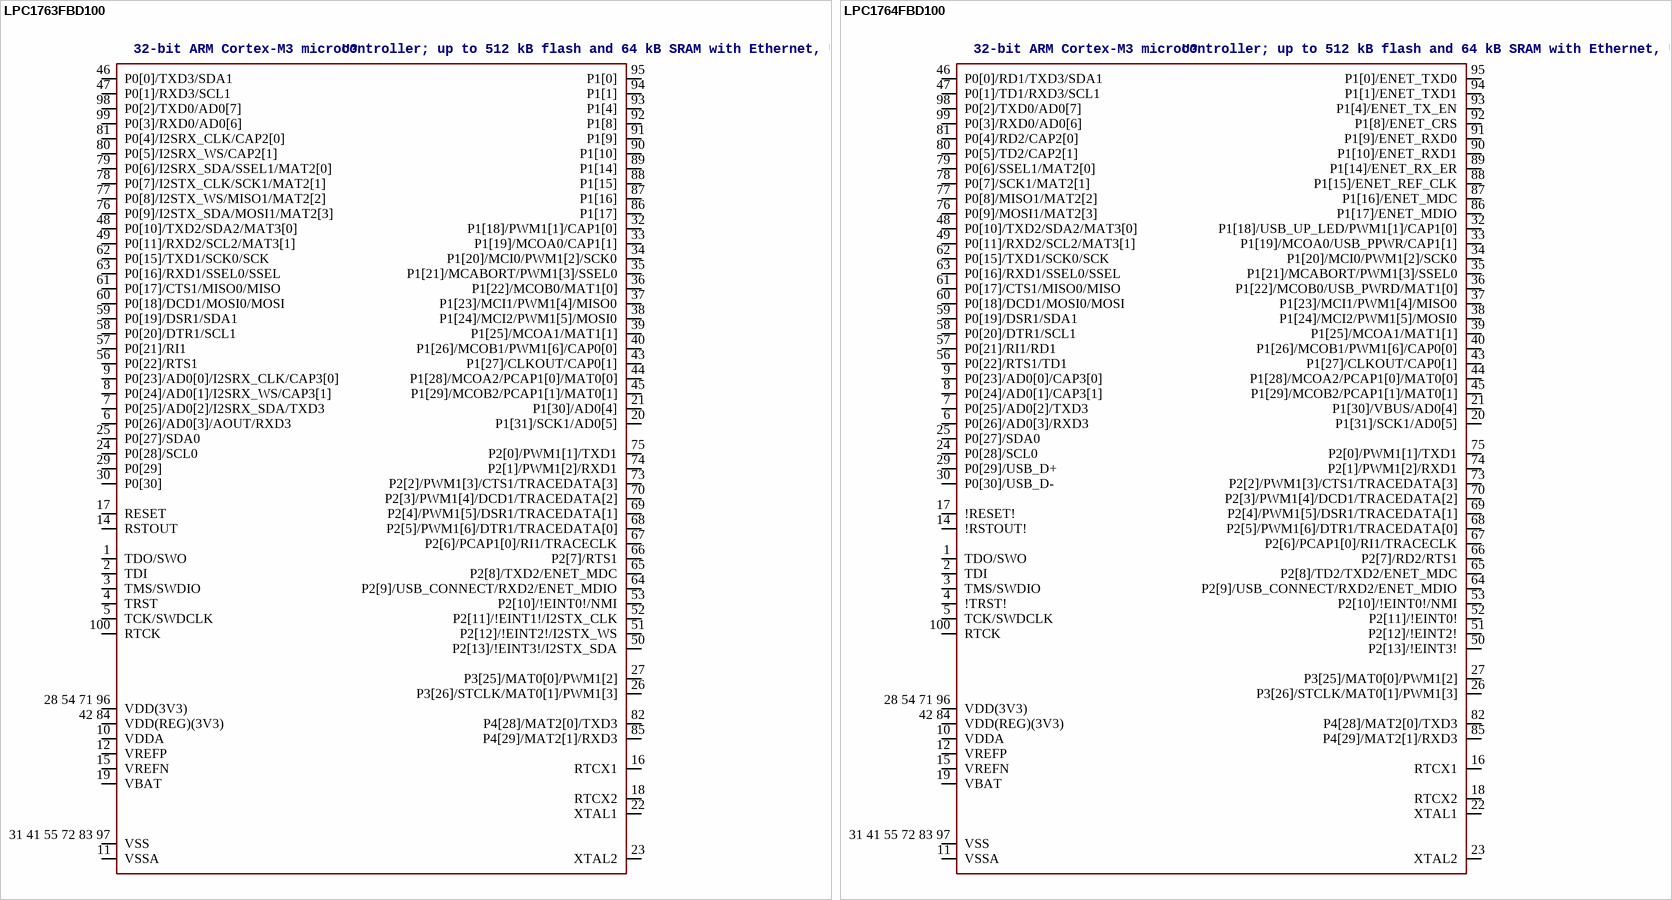
[diagram p81: symbols LPC1763FBD100 to LPC1764FBD100]

## LPC1763FBD100
designator U?, comment 32-bit ARM Cortex-M3 microcontroller; up to 512 kB flash and 64 kB SRAM with Ethernet, USB 2.0 Host/Device/OTG, CAN The LPC1769/68/67/66/65/64/63 are ARM Cortex-M3 based microcontrollers for embedded applications featuring a high level of integration and low power consumption. The ARM Cortex-M3 is a next generation core that offers system enhancements such as enhanced debug features and a higher level of support block integration. The LPC1768/67/66/65/64/63 operate at CPU frequencies of up to 100 MHz. The LPC1769 operates at CPU frequencies of up to 120 MHz. The ARM Cortex-M3 CPU incorporates a 3-stage pipeline and uses a Harvard architecture with separate local instruction and data buses as well as a third bus for peripherals. The ARM Cortex-M3 CPU also includes an internal prefetch unit that supports speculative branching. The peripheral complement of the LPC1769/68/67/66/65/64/63 includes up to 512 kB of flash memory, up to 64 kB of data memory, Ethernet MAC, USB Device/Host/OTG interface, 8-channel general purpose DMA controller, 4 UARTs, 2 CAN channels, 2 SSP controllers, SPI interface, 3 I 2 C-bus interfaces, 2-input plus 2-output I 2 S-bus interface, 8-channel 12-bit ADC, 10-bit DAC, motor control PWM, Quadrature Encoder interface, four general purpose timers, 6-output general purpose PWM, ultra-low power Real-Time Clock (RTC) with separate battery supply, and up to 70 general purpose I/O pins. The LPC1769/68/67/66/65/64/63 are pin-compatible to the 100-pin LPC236x ARM7-based microcontroller series.   AAL Eindhoven MK/MVl
CAN: no; DAC: yes; FLASH: 256kB; MHZ: 100; SRAM: 32kB; SRAM0: 16kB; ETH: no; I2S: yes; SRAM1: 16kB; USB: no
footprint SOT407-1
pins: 1 TDO/SWO, 2 TDI, 3 TMS/SWDIO, 4 TRST, 5 TCK/SWDCLK, 6 P0[26]/AD0[3]/AOUT/RXD3, 7 P0[25]/AD0[2]/I2SRX_SDA/TXD3, 8 P0[24]/AD0[1]/I2SRX_WS/CAP3[1], 9 P0[23]/AD0[0]/I2SRX_CLK/CAP3[0], 10 VDDA, 11 VSSA, 12 VREFP, 14 RSTOUT, 15 VREFN, 16 RTCX1, 17 RESET, 18 RTCX2, 19 VBAT, 20 P1[31]/SCK1/AD0[5], 21 P1[30]/AD0[4], 22 XTAL1, 23 XTAL2, 24 P0[28]/SCL0, 25 P0[27]/SDA0, 26 P3[26]/STCLK/MAT0[1]/PWM1[3], 27 P3[25]/MAT0[0]/PWM1[2], 28 54 71 96 VDD(3V3), 29 P0[29], 30 P0[30], 31 41 55 72 83 97 VSS, 32 P1[18]/PWM1[1]/CAP1[0], 33 P1[19]/MCOA0/CAP1[1], 34 P1[20]/MCI0/PWM1[2]/SCK0, 35 P1[21]/MCABORT/PWM1[3]/SSEL0, 36 P1[22]/MCOB0/MAT1[0], 37 P1[23]/MCI1/PWM1[4]/MISO0, 38 P1[24]/MCI2/PWM1[5]/MOSI0, 39 P1[25]/MCOA1/MAT1[1], 40 P1[26]/MCOB1/PWM1[6]/CAP0[0], 42 84 VDD(REG)(3V3), 43 P1[27]/CLKOUT/CAP0[1], 44 P1[28]/MCOA2/PCAP1[0]/MAT0[0], 45 P1[29]/MCOB2/PCAP1[1]/MAT0[1], 46 P0[0]/TXD3/SDA1, 47 P0[1]/RXD3/SCL1, 48 P0[10]/TXD2/SDA2/MAT3[0], 49 P0[11]/RXD2/SCL2/MAT3[1], 50 P2[13]/!EINT3!/I2STX_SDA, 51 P2[12]/!EINT2!/I2STX_WS, 52 P2[11]/!EINT1!/I2STX_CLK, 53 P2[10]/!EINT0!/NMI, 56 P0[22]/RTS1, 57 P0[21]/RI1, 58 P0[20]/DTR1/SCL1, 59 P0[19]/DSR1/SDA1, 60 P0[18]/DCD1/MOSI0/MOSI, 61 P0[17]/CTS1/MISO0/MISO, 62 P0[15]/TXD1/SCK0/SCK, 63 P0[16]/RXD1/SSEL0/SSEL, 64 P2[9]/USB_CONNECT/RXD2/ENET_MDIO, 65 P2[8]/TXD2/ENET_MDC, 66 P2[7]/RTS1, 67 P2[6]/PCAP1[0]/RI1/TRACECLK, 68 P2[5]/PWM1[6]/DTR1/TRACEDATA[0], 69 P2[4]/PWM1[5]/DSR1/TRACEDATA[1], 70 P2[3]/PWM1[4]/DCD1/TRACEDATA[2], 73 P2[2]/PWM1[3]/CTS1/TRACEDATA[3], 74 P2[1]/PWM1[2]/RXD1, 75 P2[0]/PWM1[1]/TXD1, 76 P0[9]/I2STX_SDA/MOSI1/MAT2[3], 77 P0[8]/I2STX_WS/MISO1/MAT2[2], 78 P0[7]/I2STX_CLK/SCK1/MAT2[1], 79 P0[6]/I2SRX_SDA/SSEL1/MAT2[0], 80 P0[5]/I2SRX_WS/CAP2[1], 81 P0[4]/I2SRX_CLK/CAP2[0], 82 P4[28]/MAT2[0]/TXD3, 85 P4[29]/MAT2[1]/RXD3, 86 P1[17], 87 P1[16], 88 P1[15], 89 P1[14], 90 P1[10], 91 P1[9], 92 P1[8], 93 P1[4], 94 P1[1], 95 P1[0], 98 P0[2]/TXD0/AD0[7], 99 P0[3]/RXD0/AD0[6], 100 RTCK

## LPC1764FBD100
designator U?, comment 32-bit ARM Cortex-M3 microcontroller; up to 512 kB flash and 64 kB SRAM with Ethernet, USB 2.0 Host/Device/OTG, CAN The LPC1769/68/67/66/65/64/63 are ARM Cortex-M3 based microcontrollers for embedded applications featuring a high level of integration and low power consumption. The ARM Cortex-M3 is a next generation core that offers system enhancements such as enhanced debug features and a higher level of support block integration. The LPC1768/67/66/65/64/63 operate at CPU frequencies of up to 100 MHz. The LPC1769 operates at CPU frequencies of up to 120 MHz. The ARM Cortex-M3 CPU incorporates a 3-stage pipeline and uses a Harvard architecture with separate local instruction and data buses as well as a third bus for peripherals. The ARM Cortex-M3 CPU also includes an internal prefetch unit that supports speculative branching. The peripheral complement of the LPC1769/68/67/66/65/64/63 includes up to 512 kB of flash memory, up to 64 kB of data memory, Ethernet MAC, USB Device/Host/OTG interface, 8-channel general purpose DMA controller, 4 UARTs, 2 CAN channels, 2 SSP controllers, SPI interface, 3 I 2 C-bus interfaces, 2-input plus 2-output I 2 S-bus interface, 8-channel 12-bit ADC, 10-bit DAC, motor control PWM, Quadrature Encoder interface, four general purpose timers, 6-output general purpose PWM, ultra-low power Real-Time Clock (RTC) with separate battery supply, and up to 70 general purpose I/O pins. The LPC1769/68/67/66/65/64/63 are pin-compatible to the 100-pin LPC236x ARM7-based microcontroller series.   AAL Eindhoven MK/MVl
CAN: yes; DAC: no; FLASH: 128kB; MHZ: 100; SRAM: 16kB; USB: D; ETH: yes; I2S: no; SRAM0: 16kB; SRAM1: -
footprint SOT407-1
pins: 1 TDO/SWO, 2 TDI, 3 TMS/SWDIO, 4 !TRST!, 5 TCK/SWDCLK, 6 P0[26]/AD0[3]/RXD3, 7 P0[25]/AD0[2]/TXD3, 8 P0[24]/AD0[1]/CAP3[1], 9 P0[23]/AD0[0]/CAP3[0], 10 VDDA, 11 VSSA, 12 VREFP, 14 !RSTOUT!, 15 VREFN, 16 RTCX1, 17 !RESET!, 18 RTCX2, 19 VBAT, 20 P1[31]/SCK1/AD0[5], 21 P1[30]/VBUS/AD0[4], 22 XTAL1, 23 XTAL2, 24 P0[28]/SCL0, 25 P0[27]/SDA0, 26 P3[26]/STCLK/MAT0[1]/PWM1[3], 27 P3[25]/MAT0[0]/PWM1[2], 28 54 71 96 VDD(3V3), 29 P0[29]/USB_D+, 30 P0[30]/USB_D-, 31 41 55 72 83 97 VSS, 32 P1[18]/USB_UP_LED/PWM1[1]/CAP1[0], 33 P1[19]/MCOA0/USB_PPWR/CAP1[1], 34 P1[20]/MCI0/PWM1[2]/SCK0, 35 P1[21]/MCABORT/PWM1[3]/SSEL0, 36 P1[22]/MCOB0/USB_PWRD/MAT1[0], 37 P1[23]/MCI1/PWM1[4]/MISO0, 38 P1[24]/MCI2/PWM1[5]/MOSI0, 39 P1[25]/MCOA1/MAT1[1], 40 P1[26]/MCOB1/PWM1[6]/CAP0[0], 42 84 VDD(REG)(3V3), 43 P1[27]/CLKOUT/CAP0[1], 44 P1[28]/MCOA2/PCAP1[0]/MAT0[0], 45 P1[29]/MCOB2/PCAP1[1]/MAT0[1], 46 P0[0]/RD1/TXD3/SDA1, 47 P0[1]/TD1/RXD3/SCL1, 48 P0[10]/TXD2/SDA2/MAT3[0], 49 P0[11]/RXD2/SCL2/MAT3[1], 50 P2[13]/!EINT3!, 51 P2[12]/!EINT2!, 52 P2[11]/!EINT0!, 53 P2[10]/!EINT0!/NMI, 56 P0[22]/RTS1/TD1, 57 P0[21]/RI1/RD1, 58 P0[20]/DTR1/SCL1, 59 P0[19]/DSR1/SDA1, 60 P0[18]/DCD1/MOSI0/MOSI, 61 P0[17]/CTS1/MISO0/MISO, 62 P0[15]/TXD1/SCK0/SCK, 63 P0[16]/RXD1/SSEL0/SSEL, 64 P2[9]/USB_CONNECT/RXD2/ENET_MDIO, 65 P2[8]/TD2/TXD2/ENET_MDC, 66 P2[7]/RD2/RTS1, 67 P2[6]/PCAP1[0]/RI1/TRACECLK, 68 P2[5]/PWM1[6]/DTR1/TRACEDATA[0], 69 P2[4]/PWM1[5]/DSR1/TRACEDATA[1], 70 P2[3]/PWM1[4]/DCD1/TRACEDATA[2], 73 P2[2]/PWM1[3]/CTS1/TRACEDATA[3], 74 P2[1]/PWM1[2]/RXD1, 75 P2[0]/PWM1[1]/TXD1, 76 P0[9]/MOSI1/MAT2[3], 77 P0[8]/MISO1/MAT2[2], 78 P0[7]/SCK1/MAT2[1], 79 P0[6]/SSEL1/MAT2[0], 80 P0[5]/TD2/CAP2[1], 81 P0[4]/RD2/CAP2[0], 82 P4[28]/MAT2[0]/TXD3, 85 P4[29]/MAT2[1]/RXD3, 86 P1[17]/ENET_MDIO, 87 P1[16]/ENET_MDC, 88 P1[15]/ENET_REF_CLK, 89 P1[14]/ENET_RX_ER, 90 P1[10]/ENET_RXD1, 91 P1[9]/ENET_RXD0, 92 P1[8]/ENET_CRS, 93 P1[4]/ENET_TX_EN, 94 P1[1]/ENET_TXD1, 95 P1[0]/ENET_TXD0, 98 P0[2]/TXD0/AD0[7], 99 P0[3]/RXD0/AD0[6], 100 RTCK

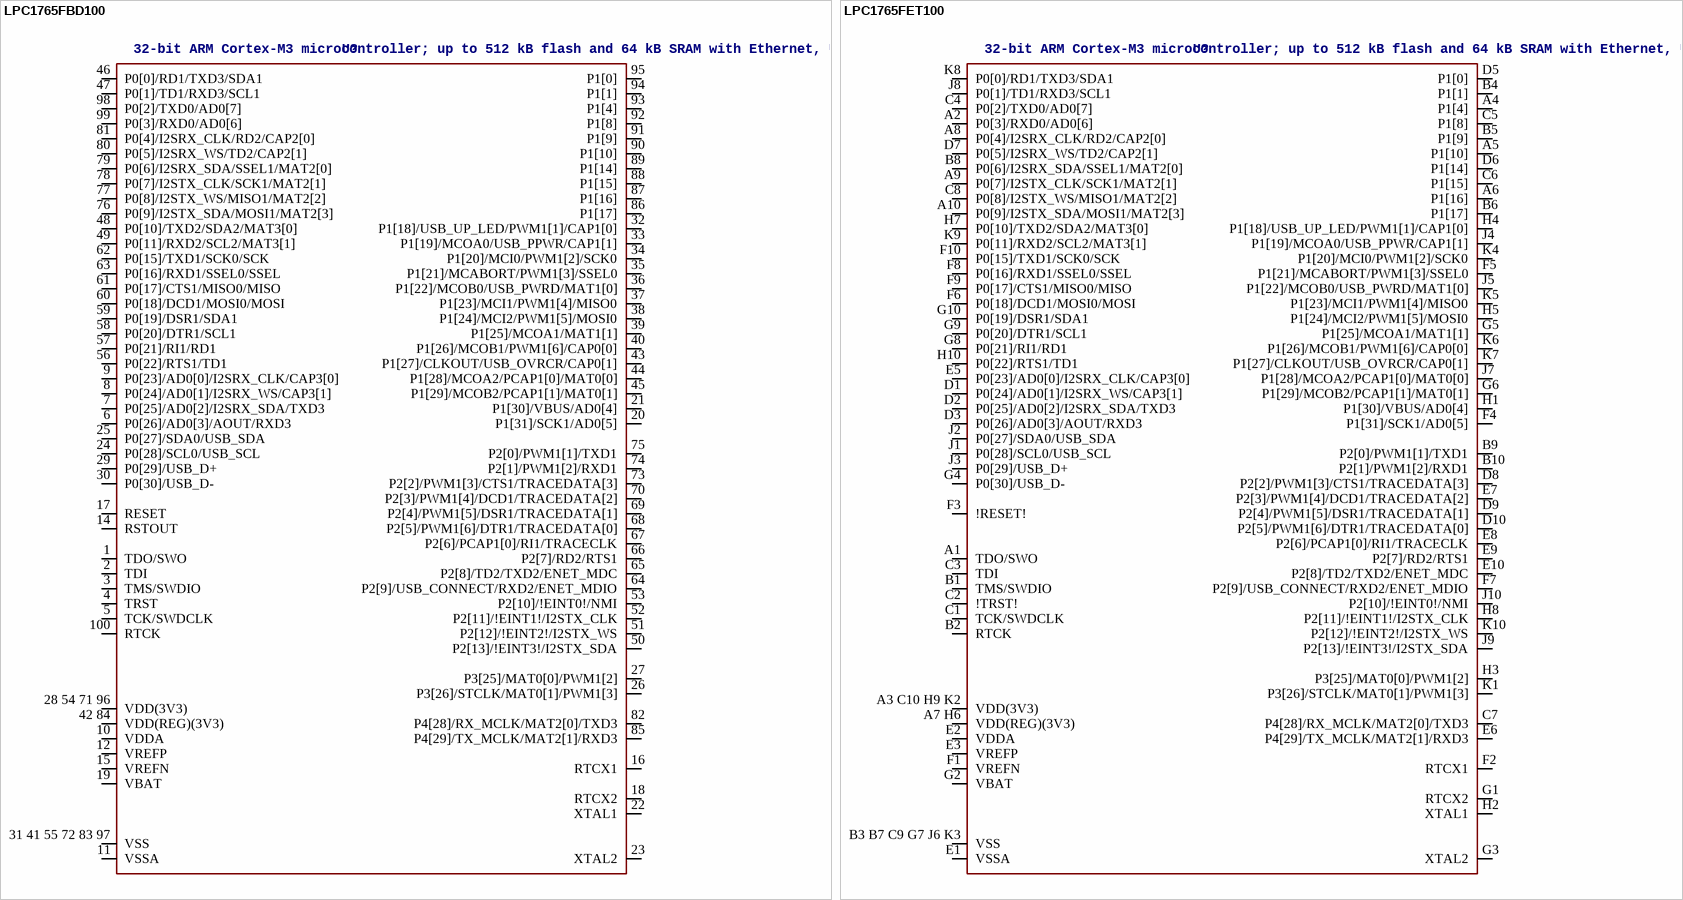
[diagram p82: symbols LPC1765FBD100 to LPC1765FET100]